# Altium schematic symbol library SYM-IC.SchLib: 136 symbols (part 7 of 7)
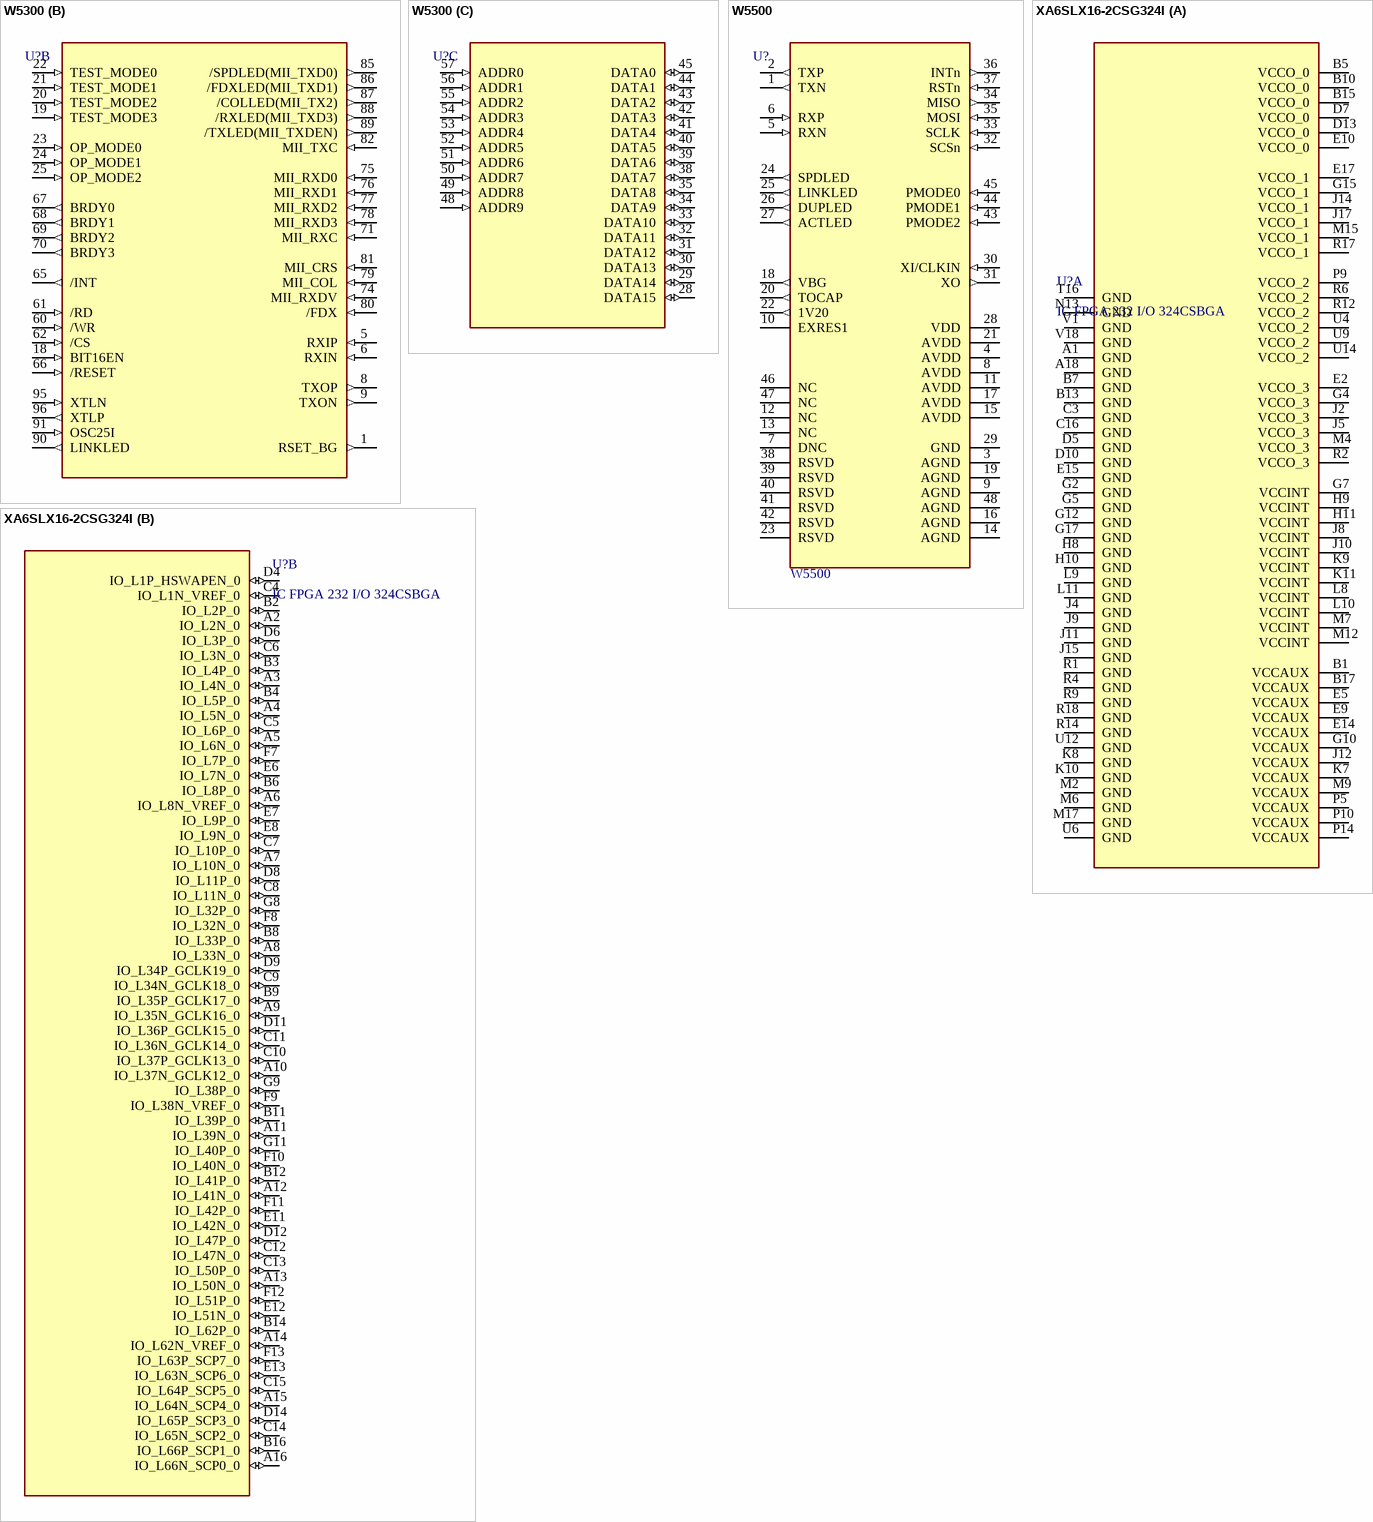
[diagram p23: symbols W5300 to XA6SLX16-2CSG324I]

## W5300
designator U?, comment IC CONTROLLER ETHERNET 100LQFP  (value not drawn)
Ethernet CTLR Single Chip 50Mbps 3.3V 100-Pin LQFP; Manufacturer: WIZnet; Manufacturer Part Number: W5300; Max Supply Voltage: 3.6V; Min Supply Voltage: 3V; Interface: Parallel; Operating Supply Current: 5mA; Data Rate: 100Mbps; Simplex/Duplex: Full Duplex; Supplier 1: Digi-Key; RoHS: Yes; Category: Ethernet Interface ICs; Stock 1: 11110; Pricing 1: 1=9/84000, 10=8/88800, 25=8/47480, 90=7/35856, 270=7/02781, 450=6/40769, 990=5/85000 (USD); Mount: Surface Mount; Case/Package: LQFP; Number of Pins: 100; Min Operating Temperature: -40°C; Max Operating Temperature: 80°C; Operating Supply Voltage: 3.3V; Package Quantity: 90; Packaging: Tray; Series: -; Supply Voltage-Nom: 3.6V; Length: 14mm; Width: 14mm; Height: 1.4mm; Lead Free: Lead Free; RoHS Compliant: Yes; ComponentLink1URL: https://datasheet.ciiva.com/6636/w5300-v1-2-6-6636080.pdf?src-supplier=Digi-Key; ComponentLink1Description: https://datasheet.ciiva.com/6636/w5300-v1-2-6-6636080.pdf?src-supplier=Digi-Key; ComponentLink2URL: https://datasheet.ciiva.com/19465/2132488-19465991.pdf?src-supplier=Jameco; ComponentLink2Description: https://datasheet.ciiva.com/19465/2132488-19465991.pdf?src-supplier=Jameco; ComponentLink3URL: https://datasheet.ciiva.com/4773/high-performance-internet-connectivity-solution-10809-4773124.pdf?src-supplier=Mouser; ComponentLink3Description: https://datasheet.ciiva.com/4773/high-performance-internet-connectivity-solution-10809-4773124.pdf?src-supplier=Mouser; ComponentLink4URL: https://datasheet.ciiva.com/16370/w5300-16370675.pdf?src-supplier=Future+Electronics; ComponentLink4Description: https://datasheet.ciiva.com/16370/w5300-16370675.pdf?src-supplier=Future+Electronics; Supplier Part Number 1: 1278-1009-ND
footprint TSQFP50P1600X1600X160-100N (TSQFP, 100-Leads, Body 14/00x14/00mm, Pitch 0/50mm, IPC Medium Density)
part A pins: 2 VCC3A3 (power), 3 NC, 4 GNDA (power), 7 VCC1V8A (power), 10 GNDA (power), 11 VCC1V8 (power), 12 GND (power), 13 1V8O (power), 14 VCC3V3 (power), 15 GND (power), 16 GNDA (power), 17 VCC1A8 (power), 26 VCC3V3 (power), 27 GND (power), 36 VCC1V8 (power), 37 GND (power), 46 VCC3V3 (power), 47 GND (power), 58 VCC1V8 (power), 59 GND (power), 63 VCC3V3 (power), 64 GND (power), 72 VCC1V8 (power), 73 GND (power), 83 VCC3V3 (power), 84 GND (power), 92 VCC1V8 (power), 93 GND (power), 94 VCC1V8 (power), 97 GND (power), 98 NC, 99 NC, 100 NC
part B pins: 1 RSET_BG (out), 5 RXIP (in), 6 RXIN (in), 8 TXOP (out), 9 TXON (out), 18 BIT16EN (in), 19 TEST_MODE3 (in), 20 TEST_MODE2 (in), 21 TEST_MODE1 (in), 22 TEST_MODE0 (in), 23 OP_MODE0 (in), 24 OP_MODE1 (in), 25 OP_MODE2 (in), 60 /WR (in), 61 /RD (in), 62 /CS (in), 65 /INT (out), 66 /RESET (in), 67 BRDY0 (out), 68 BRDY1 (out), 69 BRDY2 (out), 70 BRDY3 (out), 71 MII_RXC (in), 74 MII_RXDV (in), 75 MII_RXD0 (in), 76 MII_RXD1 (in), 77 MII_RXD2 (in), 78 MII_RXD3 (in), 79 MII_COL (in), 80 /FDX (in), 81 MII_CRS (in), 82 MII_TXC (in), 85 /SPDLED(MII_TXD0) (out), 86 /FDXLED(MII_TXD1) (out), 87 /COLLED(MII_TX2) (out), 88 /RXLED(MII_TXD3) (out), 89 /TXLED(MII_TXDEN) (out), 90 LINKLED (out), 91 OSC25I (in), 95 XTLN (in), 96 XTLP (out)
part C pins: 28 DATA15 (io), 29 DATA14 (io), 30 DATA13 (io), 31 DATA12 (io), 32 DATA11 (io), 33 DATA10 (io), 34 DATA9 (io), 35 DATA8 (io), 38 DATA7 (io), 39 DATA6 (io), 40 DATA5 (io), 41 DATA4 (io), 42 DATA3 (io), 43 DATA2 (io), 44 DATA1 (io), 45 DATA0 (io), 48 ADDR9 (in), 49 ADDR8 (in), 50 ADDR7 (in), 51 ADDR6 (in), 52 ADDR5 (in), 53 ADDR4 (in), 54 ADDR3 (in), 55 ADDR2 (in), 56 ADDR1 (in), 57 ADDR0 (in)

## W5500
designator U?, comment Manufacturer Part Number: W5500  (hidden comment: IC CTLR 3-1 ETH TCP/IP 48LQFP)
Manufacturer: WIZnet; Max Supply Voltage: 3.63V; Min Supply Voltage: 2.97V; Interface: SPI; Operating Supply Current: 132mA; Number of Transceivers: 1; Supplier 1: Digi-Key; RoHS: Yes; Category: Integrated Circuits (ICs); Stock 1: 151357; Pricing 1: 1=3/85000, 10=3/45600, 25=3/26760, 100=2/83180, 250=2/68656, 500=2/41066, 1000=2/05500 (USD); Case/Package: LQFP; Number of Pins: 48; Min Operating Temperature: -40°C; Max Operating Temperature: 85°C; Package Quantity: 250; Packaging: Tray; Max Supply Current: 132mA; Lead Free: Lead Free; RoHS Compliant: Yes; ComponentLink1URL: https://datasheet.ciiva.com/29644/w5500-ds-v100e-29644866.pdf?src-supplier=Digi-Key; ComponentLink1Description: https://datasheet.ciiva.com/29644/w5500-ds-v100e-29644866.pdf?src-supplier=Digi-Key; ComponentLink2URL: https://datasheet.ciiva.com/24199/w5500-24199988.pdf?src-supplier=Future+Electronics; ComponentLink2Description: https://datasheet.ciiva.com/24199/w5500-24199988.pdf?src-supplier=Future+Electronics; Supplier Part Number 1: 1278-W5500CT-ND
footprint TSQFP50P900X900X160-48N (TSQFP, 48-Leads, Body 7/00x7/00mm, Pitch 0/50mm, IPC Medium Density)
pins: 1 TXN (out), 2 TXP (out), 3 AGND (power), 4 AVDD (power), 5 RXN (in), 6 RXP (in), 7 DNC, 8 AVDD (power), 9 AGND (power), 10 EXRES1, 11 AVDD (power), 12 NC, 13 NC, 14 AGND (power), 15 AVDD (power), 16 AGND (power), 17 AVDD (power), 18 VBG (out), 19 AGND (power), 20 TOCAP (out), 21 AVDD (power), 22 1V20 (out), 23 RSVD, 24 SPDLED (out), 25 LINKLED (out), 26 DUPLED (out), 27 ACTLED (out), 28 VDD (power), 29 GND (power), 30 XI/CLKIN (in), 31 XO (out), 32 SCSn (in), 33 SCLK (in), 34 MISO (out), 35 MOSI (in), 36 INTn (out), 37 RSTn (in), 38 RSVD, 39 RSVD, 40 RSVD, 41 RSVD, 42 RSVD, 43 PMODE2 (in), 44 PMODE1 (in), 45 PMODE0 (in), 46 NC, 47 NC, 48 AGND (power)

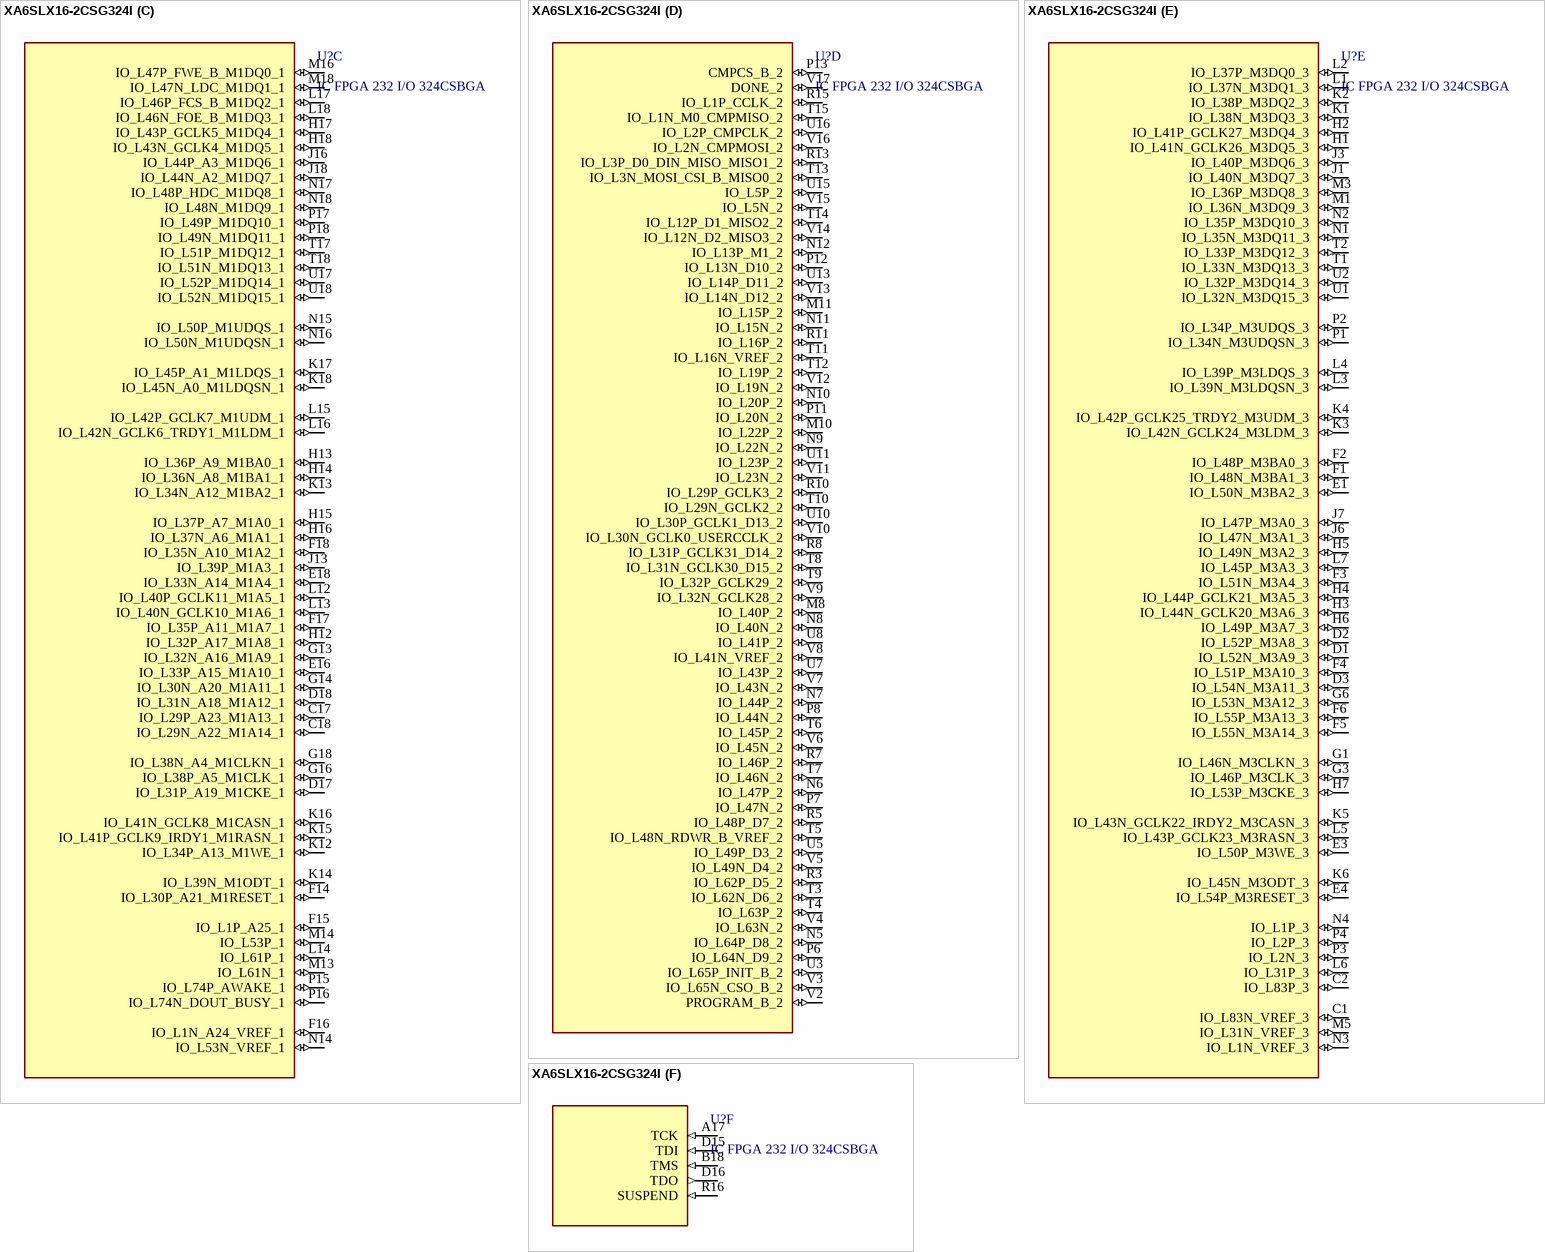
[diagram p12: symbol XA6SLX16-2CSG324I]

## XA6SLX16-2CSG324I
designator U?, comment IC FPGA 232 I/O 324CSBGA
FPGA XA Spartan-6 Family 14579 Cells 45nm (CMOS) Technology 1.2V 324-Pin CS-BGA; Manufacturer: Xilinx; Manufacturer Part Number: XA6SLX16-2CSG324I; Speed Grade: 2; Number of Logic Blocks (LABs): 1139; Number of Logic Elements/Cells: 14579; RAM Size: 589824b; Number of I/Os: 232; Number of Registers: 18224; Supplier 1: Digi-Key; RoHS: Yes; Category: FPGAs - Field Programmable Gate Arrays; Pricing 1: 126=53/55000 (USD); Mount: Surface Mount; Number of Pins: 324; Min Operating Temperature: -40°C; Max Operating Temperature: 100°C; Operating Supply Voltage: 1.2V; Package Quantity: 1; Series: Automotive, AEC-Q100, Spartan®-6 LX XA; RoHS Compliant: Yes; ComponentLink1URL: https://datasheet.ciiva.com/3254/ds170-3254933.pdf?src-supplier=Avnet; ComponentLink1Description: https://datasheet.ciiva.com/3254/ds170-3254933.pdf?src-supplier=Avnet; ComponentLink2URL: https://datasheet.ciiva.com/1473/ds170-1473563.pdf?src-supplier=Digi-Key; ComponentLink2Description: https://datasheet.ciiva.com/1473/ds170-1473563.pdf?src-supplier=Digi-Key; Supplier Part Number 1: XA6SLX16-2CSG324I-ND
footprint BGA324C80P18X18_1500X1500X150 (BGA, 324-Leads, Body 15/00x15/00mmx1/50mm, Pitch 0/80mm)
part A pins: A1 GND (power), A18 GND (power), B1 VCCAUX (power), B5 VCCO_0 (power), B7 GND (power), B10 VCCO_0 (power), B13 GND (power), B15 VCCO_0 (power), B17 VCCAUX (power), C3 GND (power), C16 GND (power), D5 GND (power), D7 VCCO_0 (power), D10 GND (power), D13 VCCO_0 (power), E2 VCCO_3 (power), E5 VCCAUX (power), E9 VCCAUX (power), E10 VCCO_0 (power), E14 VCCAUX (power), E15 GND (power), E17 VCCO_1 (power), G2 GND (power), G4 VCCO_3 (power), G5 GND (power), G7 VCCINT (power), G10 VCCAUX (power), G12 GND (power), G15 VCCO_1 (power), G17 GND (power), H8 GND (power), H9 VCCINT (power), H10 GND (power), H11 VCCINT (power), J2 VCCO_3 (power), J4 GND (power), J5 VCCO_3 (power), J8 VCCINT (power), J9 GND (power), J10 VCCINT (power), J11 GND (power), J12 VCCAUX (power), J14 VCCO_1 (power), J15 GND (power), J17 VCCO_1 (power), K7 VCCAUX (power), K8 GND (power), K9 VCCINT (power), K10 GND (power), K11 VCCINT (power), L8 VCCINT (power), L9 GND (power), L10 VCCINT (power), L11 GND (power), M2 GND (power), M4 VCCO_3 (power), M6 GND (power), M7 VCCINT (power), M9 VCCAUX (power), M12 VCCINT (power), M15 VCCO_1 (power), M17 GND (power), N13 GND (power), P5 VCCAUX (power), P9 VCCO_2 (power), P10 VCCAUX (power), P14 VCCAUX (power), R1 GND (power), R2 VCCO_3 (power), R4 GND (power), R6 VCCO_2 (power), R9 GND (power), R12 VCCO_2 (power), R14 GND (power), R17 VCCO_1 (power), R18 GND (power), T16 GND (power), U4 VCCO_2 (power), U6 GND (power), U9 VCCO_2 (power), U12 GND (power), U14 VCCO_2 (power), V1 GND (power), V18 GND (power)
part B pins: A2 IO_L2N_0 (io), A3 IO_L4N_0 (io), A4 IO_L5N_0 (io), A5 IO_L6N_0 (io), A6 IO_L8N_VREF_0 (io), A7 IO_L10N_0 (io), A8 IO_L33N_0 (io), A9 IO_L35N_GCLK16_0 (io), A10 IO_L37N_GCLK12_0 (io), A11 IO_L39N_0 (io), A12 IO_L41N_0 (io), A13 IO_L50N_0 (io), A14 IO_L62N_VREF_0 (io), A15 IO_L64N_SCP4_0 (io), A16 IO_L66N_SCP0_0 (io), B2 IO_L2P_0 (io), B3 IO_L4P_0 (io), B4 IO_L5P_0 (io), B6 IO_L8P_0 (io), B8 IO_L33P_0 (io), B9 IO_L35P_GCLK17_0 (io), B11 IO_L39P_0 (io), B12 IO_L41P_0 (io), B14 IO_L62P_0 (io), B16 IO_L66P_SCP1_0 (io), C4 IO_L1N_VREF_0 (io), C5 IO_L6P_0 (io), C6 IO_L3N_0 (io), C7 IO_L10P_0 (io), C8 IO_L11N_0 (io), C9 IO_L34N_GCLK18_0 (io), C10 IO_L37P_GCLK13_0 (io), C11 IO_L36N_GCLK14_0 (io), C12 IO_L47N_0 (io), C13 IO_L50P_0 (io), C14 IO_L65N_SCP2_0 (io), C15 IO_L64P_SCP5_0 (io), D4 IO_L1P_HSWAPEN_0 (io), D6 IO_L3P_0 (io), D8 IO_L11P_0 (io), D9 IO_L34P_GCLK19_0 (io), D11 IO_L36P_GCLK15_0 (io), D12 IO_L47P_0 (io), D14 IO_L65P_SCP3_0 (io), E6 IO_L7N_0 (io), E7 IO_L9P_0 (io), E8 IO_L9N_0 (io), E11 IO_L42N_0 (io), E12 IO_L51N_0 (io), E13 IO_L63N_SCP6_0 (io), F7 IO_L7P_0 (io), F8 IO_L32N_0 (io), F9 IO_L38N_VREF_0 (io), F10 IO_L40N_0 (io), F11 IO_L42P_0 (io), F12 IO_L51P_0 (io), F13 IO_L63P_SCP7_0 (io), G8 IO_L32P_0 (io), G9 IO_L38P_0 (io), G11 IO_L40P_0 (io)
part C pins: C17 IO_L29P_A23_M1A13_1 (io), C18 IO_L29N_A22_M1A14_1 (io), D17 IO_L31P_A19_M1CKE_1 (io), D18 IO_L31N_A18_M1A12_1 (io), E16 IO_L33P_A15_M1A10_1 (io), E18 IO_L33N_A14_M1A4_1 (io), F14 IO_L30P_A21_M1RESET_1 (io), F15 IO_L1P_A25_1 (io), F16 IO_L1N_A24_VREF_1 (io), F17 IO_L35P_A11_M1A7_1 (io), F18 IO_L35N_A10_M1A2_1 (io), G13 IO_L32N_A16_M1A9_1 (io), G14 IO_L30N_A20_M1A11_1 (io), G16 IO_L38P_A5_M1CLK_1 (io), G18 IO_L38N_A4_M1CLKN_1 (io), H12 IO_L32P_A17_M1A8_1 (io), H13 IO_L36P_A9_M1BA0_1 (io), H14 IO_L36N_A8_M1BA1_1 (io), H15 IO_L37P_A7_M1A0_1 (io), H16 IO_L37N_A6_M1A1_1 (io), H17 IO_L43P_GCLK5_M1DQ4_1 (io), H18 IO_L43N_GCLK4_M1DQ5_1 (io), J13 IO_L39P_M1A3_1 (io), J16 IO_L44P_A3_M1DQ6_1 (io), J18 IO_L44N_A2_M1DQ7_1 (io), K12 IO_L34P_A13_M1WE_1 (io), K13 IO_L34N_A12_M1BA2_1 (io), K14 IO_L39N_M1ODT_1 (io), K15 IO_L41P_GCLK9_IRDY1_M1RASN_1 (io), K16 IO_L41N_GCLK8_M1CASN_1 (io), K17 IO_L45P_A1_M1LDQS_1 (io), K18 IO_L45N_A0_M1LDQSN_1 (io), L12 IO_L40P_GCLK11_M1A5_1 (io), L13 IO_L40N_GCLK10_M1A6_1 (io), L14 IO_L61P_1 (io), L15 IO_L42P_GCLK7_M1UDM_1 (io), L16 IO_L42N_GCLK6_TRDY1_M1LDM_1 (io), L17 IO_L46P_FCS_B_M1DQ2_1 (io), L18 IO_L46N_FOE_B_M1DQ3_1 (io), M13 IO_L61N_1 (io), M14 IO_L53P_1 (io), M16 IO_L47P_FWE_B_M1DQ0_1 (io), M18 IO_L47N_LDC_M1DQ1_1 (io), N14 IO_L53N_VREF_1 (io), N15 IO_L50P_M1UDQS_1 (io), N16 IO_L50N_M1UDQSN_1 (io), N17 IO_L48P_HDC_M1DQ8_1 (io), N18 IO_L48N_M1DQ9_1 (io), P15 IO_L74P_AWAKE_1 (io), P16 IO_L74N_DOUT_BUSY_1 (io), P17 IO_L49P_M1DQ10_1 (io), P18 IO_L49N_M1DQ11_1 (io), T17 IO_L51P_M1DQ12_1 (io), T18 IO_L51N_M1DQ13_1 (io), U17 IO_L52P_M1DQ14_1 (io), U18 IO_L52N_M1DQ15_1 (io)
part D pins: M8 IO_L40P_2 (io), M10 IO_L22P_2 (io), M11 IO_L15P_2 (io), N5 IO_L64P_D8_2 (io), N6 IO_L47P_2 (io), N7 IO_L44P_2 (io), N8 IO_L40N_2 (io), N9 IO_L22N_2 (io), N10 IO_L20P_2 (io), N11 IO_L15N_2 (io), N12 IO_L13P_M1_2 (io), P6 IO_L64N_D9_2 (io), P7 IO_L47N_2 (io), P8 IO_L44N_2 (io), P11 IO_L20N_2 (io), P12 IO_L13N_D10_2 (io), P13 CMPCS_B_2 (io), R3 IO_L62P_D5_2 (io), R5 IO_L48P_D7_2 (io), R7 IO_L46P_2 (io), R8 IO_L31P_GCLK31_D14_2 (io), R10 IO_L29P_GCLK3_2 (io), R11 IO_L16P_2 (io), R13 IO_L3P_D0_DIN_MISO_MISO1_2 (io), R15 IO_L1P_CCLK_2 (io), T3 IO_L62N_D6_2 (io), T4 IO_L63P_2 (io), T5 IO_L48N_RDWR_B_VREF_2 (io), T6 IO_L45P_2 (io), T7 IO_L46N_2 (io), T8 IO_L31N_GCLK30_D15_2 (io), T9 IO_L32P_GCLK29_2 (io), T10 IO_L29N_GCLK2_2 (io), T11 IO_L16N_VREF_2 (io), T12 IO_L19P_2 (io), T13 IO_L3N_MOSI_CSI_B_MISO0_2 (io), T14 IO_L12P_D1_MISO2_2 (io), T15 IO_L1N_M0_CMPMISO_2 (io), U3 IO_L65P_INIT_B_2 (io), U5 IO_L49P_D3_2 (io), U7 IO_L43P_2 (io), U8 IO_L41P_2 (io), U10 IO_L30P_GCLK1_D13_2 (io), U11 IO_L23P_2 (io), U13 IO_L14P_D11_2 (io), U15 IO_L5P_2 (io), U16 IO_L2P_CMPCLK_2 (io), V2 PROGRAM_B_2 (io), V3 IO_L65N_CSO_B_2 (io), V4 IO_L63N_2 (io), V5 IO_L49N_D4_2 (io), V6 IO_L45N_2 (io), V7 IO_L43N_2 (io), V8 IO_L41N_VREF_2 (io), V9 IO_L32N_GCLK28_2 (io), V10 IO_L30N_GCLK0_USERCCLK_2 (io), V11 IO_L23N_2 (io), V12 IO_L19N_2 (io), V13 IO_L14N_D12_2 (io), V14 IO_L12N_D2_MISO3_2 (io), V15 IO_L5N_2 (io), V16 IO_L2N_CMPMOSI_2 (io), V17 DONE_2 (io)
part E pins: C1 IO_L83N_VREF_3 (io), C2 IO_L83P_3 (io), D1 IO_L52N_M3A9_3 (io), D2 IO_L52P_M3A8_3 (io), D3 IO_L54N_M3A11_3 (io), E1 IO_L50N_M3BA2_3 (io), E3 IO_L50P_M3WE_3 (io), E4 IO_L54P_M3RESET_3 (io), F1 IO_L48N_M3BA1_3 (io), F2 IO_L48P_M3BA0_3 (io), F3 IO_L51N_M3A4_3 (io), F4 IO_L51P_M3A10_3 (io), F5 IO_L55N_M3A14_3 (io), F6 IO_L55P_M3A13_3 (io), G1 IO_L46N_M3CLKN_3 (io), G3 IO_L46P_M3CLK_3 (io), G6 IO_L53N_M3A12_3 (io), H1 IO_L41N_GCLK26_M3DQ5_3 (io), H2 IO_L41P_GCLK27_M3DQ4_3 (io), H3 IO_L44N_GCLK20_M3A6_3 (io), H4 IO_L44P_GCLK21_M3A5_3 (io), H5 IO_L49N_M3A2_3 (io), H6 IO_L49P_M3A7_3 (io), H7 IO_L53P_M3CKE_3 (io), J1 IO_L40N_M3DQ7_3 (io), J3 IO_L40P_M3DQ6_3 (io), J6 IO_L47N_M3A1_3 (io), J7 IO_L47P_M3A0_3 (io), K1 IO_L38N_M3DQ3_3 (io), K2 IO_L38P_M3DQ2_3 (io), K3 IO_L42N_GCLK24_M3LDM_3 (io), K4 IO_L42P_GCLK25_TRDY2_M3UDM_3 (io), K5 IO_L43N_GCLK22_IRDY2_M3CASN_3 (io), K6 IO_L45N_M3ODT_3 (io), L1 IO_L37N_M3DQ1_3 (io), L2 IO_L37P_M3DQ0_3 (io), L3 IO_L39N_M3LDQSN_3 (io), L4 IO_L39P_M3LDQS_3 (io), L5 IO_L43P_GCLK23_M3RASN_3 (io), L6 IO_L31P_3 (io), L7 IO_L45P_M3A3_3 (io), M1 IO_L36N_M3DQ9_3 (io), M3 IO_L36P_M3DQ8_3 (io), M5 IO_L31N_VREF_3 (io), N1 IO_L35N_M3DQ11_3 (io), N2 IO_L35P_M3DQ10_3 (io), N3 IO_L1N_VREF_3 (io), N4 IO_L1P_3 (io), P1 IO_L34N_M3UDQSN_3 (io), P2 IO_L34P_M3UDQS_3 (io), P3 IO_L2N_3 (io), P4 IO_L2P_3 (io), T1 IO_L33N_M3DQ13_3 (io), T2 IO_L33P_M3DQ12_3 (io), U1 IO_L32N_M3DQ15_3 (io), U2 IO_L32P_M3DQ14_3 (io)
part F pins: A17 TCK (in), B18 TMS (in), D15 TDI (in), D16 TDO (out), R16 SUSPEND (in)

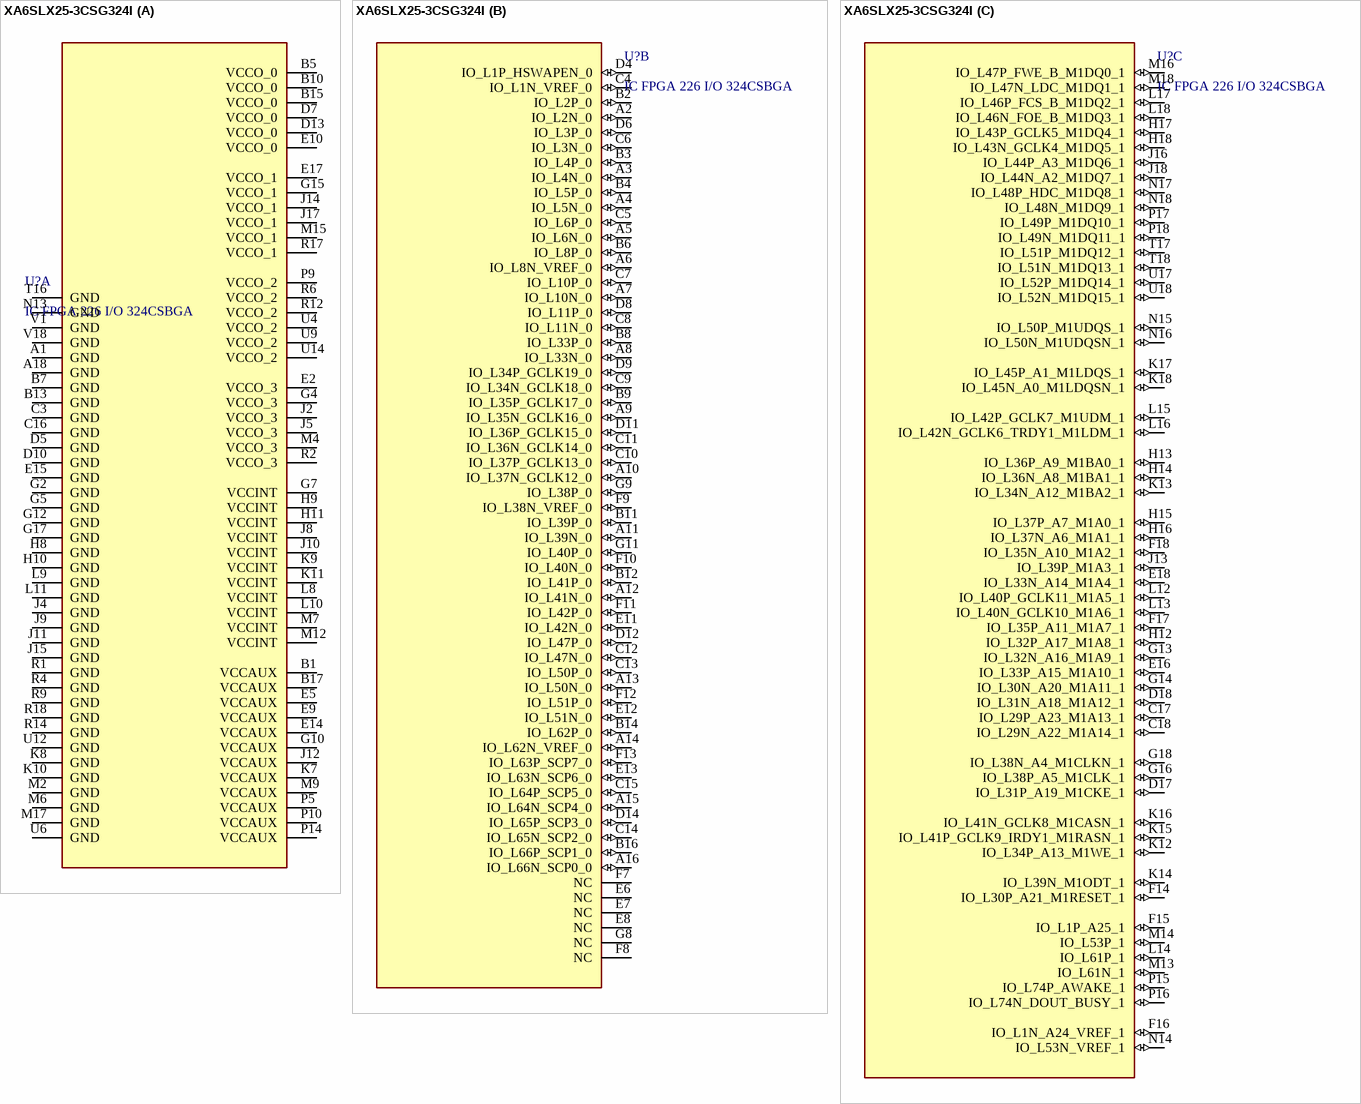
[diagram p13: symbol XA6SLX25-3CSG324I]

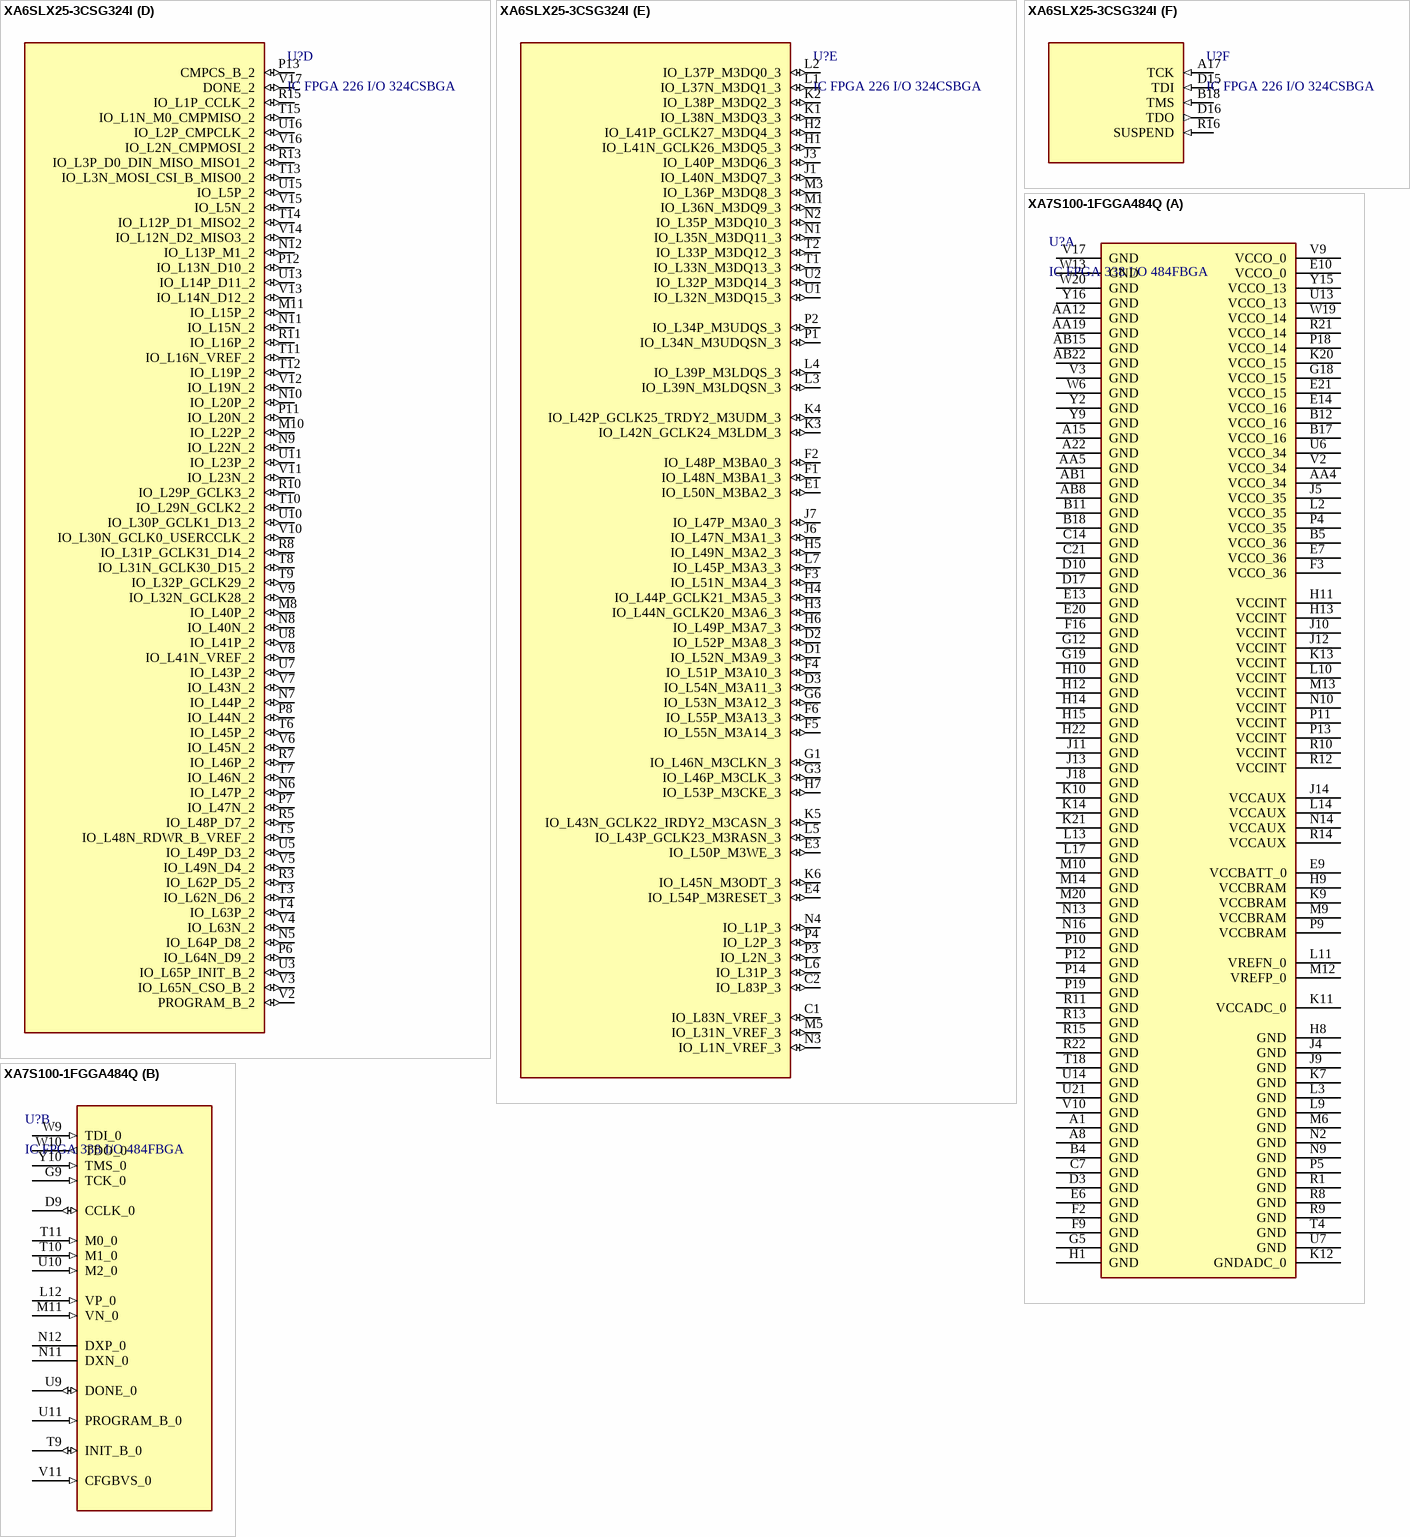
[diagram p14: symbols XA6SLX25-3CSG324I to XA7S100-1FGGA484Q]

## XA6SLX25-3CSG324I
designator U?, comment IC FPGA 226 I/O 324CSBGA
FPGA XA Spartan-6 Family 24051 Cells 45nm (CMOS) Technology 1.2V 324-Pin CS-BGA; Manufacturer: Xilinx; Manufacturer Part Number: XA6SLX25-3CSG324I; Speed Grade: 3; Number of Logic Blocks (LABs): 1879; Number of Logic Elements/Cells: 24051; RAM Size: 958464b; Number of I/Os: 226; Number of Registers: 30064; Supplier 1: Digi-Key; RoHS: Yes; Category: FPGAs - Field Programmable Gate Arrays; Mount: Surface Mount; Number of Pins: 324; Min Operating Temperature: -40°C; Max Operating Temperature: 100°C; Operating Supply Voltage: 1.2V; Package Quantity: 1; Series: Automotive, AEC-Q100, Spartan®-6 LX XA; RoHS Compliant: Yes; ComponentLink1URL: https://datasheet.ciiva.com/1474/ds170-1474197.pdf?src-supplier=Digi-Key; ComponentLink1Description: https://datasheet.ciiva.com/1474/ds170-1474197.pdf?src-supplier=Digi-Key; Supplier Part Number 1: XA6SLX25-3CSG324I-ND
footprint BGA324C80P18X18_1500X1500X150 (BGA, 324-Leads, Body 15/00x15/00mmx1/50mm, Pitch 0/80mm)
part A pins: A1 GND (power), A18 GND (power), B1 VCCAUX (power), B5 VCCO_0 (power), B7 GND (power), B10 VCCO_0 (power), B13 GND (power), B15 VCCO_0 (power), B17 VCCAUX (power), C3 GND (power), C16 GND (power), D5 GND (power), D7 VCCO_0 (power), D10 GND (power), D13 VCCO_0 (power), E2 VCCO_3 (power), E5 VCCAUX (power), E9 VCCAUX (power), E10 VCCO_0 (power), E14 VCCAUX (power), E15 GND (power), E17 VCCO_1 (power), G2 GND (power), G4 VCCO_3 (power), G5 GND (power), G7 VCCINT (power), G10 VCCAUX (power), G12 GND (power), G15 VCCO_1 (power), G17 GND (power), H8 GND (power), H9 VCCINT (power), H10 GND (power), H11 VCCINT (power), J2 VCCO_3 (power), J4 GND (power), J5 VCCO_3 (power), J8 VCCINT (power), J9 GND (power), J10 VCCINT (power), J11 GND (power), J12 VCCAUX (power), J14 VCCO_1 (power), J15 GND (power), J17 VCCO_1 (power), K7 VCCAUX (power), K8 GND (power), K9 VCCINT (power), K10 GND (power), K11 VCCINT (power), L8 VCCINT (power), L9 GND (power), L10 VCCINT (power), L11 GND (power), M2 GND (power), M4 VCCO_3 (power), M6 GND (power), M7 VCCINT (power), M9 VCCAUX (power), M12 VCCINT (power), M15 VCCO_1 (power), M17 GND (power), N13 GND (power), P5 VCCAUX (power), P9 VCCO_2 (power), P10 VCCAUX (power), P14 VCCAUX (power), R1 GND (power), R2 VCCO_3 (power), R4 GND (power), R6 VCCO_2 (power), R9 GND (power), R12 VCCO_2 (power), R14 GND (power), R17 VCCO_1 (power), R18 GND (power), T16 GND (power), U4 VCCO_2 (power), U6 GND (power), U9 VCCO_2 (power), U12 GND (power), U14 VCCO_2 (power), V1 GND (power), V18 GND (power)
part B pins: A2 IO_L2N_0 (io), A3 IO_L4N_0 (io), A4 IO_L5N_0 (io), A5 IO_L6N_0 (io), A6 IO_L8N_VREF_0 (io), A7 IO_L10N_0 (io), A8 IO_L33N_0 (io), A9 IO_L35N_GCLK16_0 (io), A10 IO_L37N_GCLK12_0 (io), A11 IO_L39N_0 (io), A12 IO_L41N_0 (io), A13 IO_L50N_0 (io), A14 IO_L62N_VREF_0 (io), A15 IO_L64N_SCP4_0 (io), A16 IO_L66N_SCP0_0 (io), B2 IO_L2P_0 (io), B3 IO_L4P_0 (io), B4 IO_L5P_0 (io), B6 IO_L8P_0 (io), B8 IO_L33P_0 (io), B9 IO_L35P_GCLK17_0 (io), B11 IO_L39P_0 (io), B12 IO_L41P_0 (io), B14 IO_L62P_0 (io), B16 IO_L66P_SCP1_0 (io), C4 IO_L1N_VREF_0 (io), C5 IO_L6P_0 (io), C6 IO_L3N_0 (io), C7 IO_L10P_0 (io), C8 IO_L11N_0 (io), C9 IO_L34N_GCLK18_0 (io), C10 IO_L37P_GCLK13_0 (io), C11 IO_L36N_GCLK14_0 (io), C12 IO_L47N_0 (io), C13 IO_L50P_0 (io), C14 IO_L65N_SCP2_0 (io), C15 IO_L64P_SCP5_0 (io), D4 IO_L1P_HSWAPEN_0 (io), D6 IO_L3P_0 (io), D8 IO_L11P_0 (io), D9 IO_L34P_GCLK19_0 (io), D11 IO_L36P_GCLK15_0 (io), D12 IO_L47P_0 (io), D14 IO_L65P_SCP3_0 (io), E6 NC, E7 NC, E8 NC, E11 IO_L42N_0 (io), E12 IO_L51N_0 (io), E13 IO_L63N_SCP6_0 (io), F7 NC, F8 NC, F9 IO_L38N_VREF_0 (io), F10 IO_L40N_0 (io), F11 IO_L42P_0 (io), F12 IO_L51P_0 (io), F13 IO_L63P_SCP7_0 (io), G8 NC, G9 IO_L38P_0 (io), G11 IO_L40P_0 (io)
part C pins: C17 IO_L29P_A23_M1A13_1 (io), C18 IO_L29N_A22_M1A14_1 (io), D17 IO_L31P_A19_M1CKE_1 (io), D18 IO_L31N_A18_M1A12_1 (io), E16 IO_L33P_A15_M1A10_1 (io), E18 IO_L33N_A14_M1A4_1 (io), F14 IO_L30P_A21_M1RESET_1 (io), F15 IO_L1P_A25_1 (io), F16 IO_L1N_A24_VREF_1 (io), F17 IO_L35P_A11_M1A7_1 (io), F18 IO_L35N_A10_M1A2_1 (io), G13 IO_L32N_A16_M1A9_1 (io), G14 IO_L30N_A20_M1A11_1 (io), G16 IO_L38P_A5_M1CLK_1 (io), G18 IO_L38N_A4_M1CLKN_1 (io), H12 IO_L32P_A17_M1A8_1 (io), H13 IO_L36P_A9_M1BA0_1 (io), H14 IO_L36N_A8_M1BA1_1 (io), H15 IO_L37P_A7_M1A0_1 (io), H16 IO_L37N_A6_M1A1_1 (io), H17 IO_L43P_GCLK5_M1DQ4_1 (io), H18 IO_L43N_GCLK4_M1DQ5_1 (io), J13 IO_L39P_M1A3_1 (io), J16 IO_L44P_A3_M1DQ6_1 (io), J18 IO_L44N_A2_M1DQ7_1 (io), K12 IO_L34P_A13_M1WE_1 (io), K13 IO_L34N_A12_M1BA2_1 (io), K14 IO_L39N_M1ODT_1 (io), K15 IO_L41P_GCLK9_IRDY1_M1RASN_1 (io), K16 IO_L41N_GCLK8_M1CASN_1 (io), K17 IO_L45P_A1_M1LDQS_1 (io), K18 IO_L45N_A0_M1LDQSN_1 (io), L12 IO_L40P_GCLK11_M1A5_1 (io), L13 IO_L40N_GCLK10_M1A6_1 (io), L14 IO_L61P_1 (io), L15 IO_L42P_GCLK7_M1UDM_1 (io), L16 IO_L42N_GCLK6_TRDY1_M1LDM_1 (io), L17 IO_L46P_FCS_B_M1DQ2_1 (io), L18 IO_L46N_FOE_B_M1DQ3_1 (io), M13 IO_L61N_1 (io), M14 IO_L53P_1 (io), M16 IO_L47P_FWE_B_M1DQ0_1 (io), M18 IO_L47N_LDC_M1DQ1_1 (io), N14 IO_L53N_VREF_1 (io), N15 IO_L50P_M1UDQS_1 (io), N16 IO_L50N_M1UDQSN_1 (io), N17 IO_L48P_HDC_M1DQ8_1 (io), N18 IO_L48N_M1DQ9_1 (io), P15 IO_L74P_AWAKE_1 (io), P16 IO_L74N_DOUT_BUSY_1 (io), P17 IO_L49P_M1DQ10_1 (io), P18 IO_L49N_M1DQ11_1 (io), T17 IO_L51P_M1DQ12_1 (io), T18 IO_L51N_M1DQ13_1 (io), U17 IO_L52P_M1DQ14_1 (io), U18 IO_L52N_M1DQ15_1 (io)
part D pins: M8 IO_L40P_2 (io), M10 IO_L22P_2 (io), M11 IO_L15P_2 (io), N5 IO_L64P_D8_2 (io), N6 IO_L47P_2 (io), N7 IO_L44P_2 (io), N8 IO_L40N_2 (io), N9 IO_L22N_2 (io), N10 IO_L20P_2 (io), N11 IO_L15N_2 (io), N12 IO_L13P_M1_2 (io), P6 IO_L64N_D9_2 (io), P7 IO_L47N_2 (io), P8 IO_L44N_2 (io), P11 IO_L20N_2 (io), P12 IO_L13N_D10_2 (io), P13 CMPCS_B_2 (io), R3 IO_L62P_D5_2 (io), R5 IO_L48P_D7_2 (io), R7 IO_L46P_2 (io), R8 IO_L31P_GCLK31_D14_2 (io), R10 IO_L29P_GCLK3_2 (io), R11 IO_L16P_2 (io), R13 IO_L3P_D0_DIN_MISO_MISO1_2 (io), R15 IO_L1P_CCLK_2 (io), T3 IO_L62N_D6_2 (io), T4 IO_L63P_2 (io), T5 IO_L48N_RDWR_B_VREF_2 (io), T6 IO_L45P_2 (io), T7 IO_L46N_2 (io), T8 IO_L31N_GCLK30_D15_2 (io), T9 IO_L32P_GCLK29_2 (io), T10 IO_L29N_GCLK2_2 (io), T11 IO_L16N_VREF_2 (io), T12 IO_L19P_2 (io), T13 IO_L3N_MOSI_CSI_B_MISO0_2 (io), T14 IO_L12P_D1_MISO2_2 (io), T15 IO_L1N_M0_CMPMISO_2 (io), U3 IO_L65P_INIT_B_2 (io), U5 IO_L49P_D3_2 (io), U7 IO_L43P_2 (io), U8 IO_L41P_2 (io), U10 IO_L30P_GCLK1_D13_2 (io), U11 IO_L23P_2 (io), U13 IO_L14P_D11_2 (io), U15 IO_L5P_2 (io), U16 IO_L2P_CMPCLK_2 (io), V2 PROGRAM_B_2 (io), V3 IO_L65N_CSO_B_2 (io), V4 IO_L63N_2 (io), V5 IO_L49N_D4_2 (io), V6 IO_L45N_2 (io), V7 IO_L43N_2 (io), V8 IO_L41N_VREF_2 (io), V9 IO_L32N_GCLK28_2 (io), V10 IO_L30N_GCLK0_USERCCLK_2 (io), V11 IO_L23N_2 (io), V12 IO_L19N_2 (io), V13 IO_L14N_D12_2 (io), V14 IO_L12N_D2_MISO3_2 (io), V15 IO_L5N_2 (io), V16 IO_L2N_CMPMOSI_2 (io), V17 DONE_2 (io)
part E pins: C1 IO_L83N_VREF_3 (io), C2 IO_L83P_3 (io), D1 IO_L52N_M3A9_3 (io), D2 IO_L52P_M3A8_3 (io), D3 IO_L54N_M3A11_3 (io), E1 IO_L50N_M3BA2_3 (io), E3 IO_L50P_M3WE_3 (io), E4 IO_L54P_M3RESET_3 (io), F1 IO_L48N_M3BA1_3 (io), F2 IO_L48P_M3BA0_3 (io), F3 IO_L51N_M3A4_3 (io), F4 IO_L51P_M3A10_3 (io), F5 IO_L55N_M3A14_3 (io), F6 IO_L55P_M3A13_3 (io), G1 IO_L46N_M3CLKN_3 (io), G3 IO_L46P_M3CLK_3 (io), G6 IO_L53N_M3A12_3 (io), H1 IO_L41N_GCLK26_M3DQ5_3 (io), H2 IO_L41P_GCLK27_M3DQ4_3 (io), H3 IO_L44N_GCLK20_M3A6_3 (io), H4 IO_L44P_GCLK21_M3A5_3 (io), H5 IO_L49N_M3A2_3 (io), H6 IO_L49P_M3A7_3 (io), H7 IO_L53P_M3CKE_3 (io), J1 IO_L40N_M3DQ7_3 (io), J3 IO_L40P_M3DQ6_3 (io), J6 IO_L47N_M3A1_3 (io), J7 IO_L47P_M3A0_3 (io), K1 IO_L38N_M3DQ3_3 (io), K2 IO_L38P_M3DQ2_3 (io), K3 IO_L42N_GCLK24_M3LDM_3 (io), K4 IO_L42P_GCLK25_TRDY2_M3UDM_3 (io), K5 IO_L43N_GCLK22_IRDY2_M3CASN_3 (io), K6 IO_L45N_M3ODT_3 (io), L1 IO_L37N_M3DQ1_3 (io), L2 IO_L37P_M3DQ0_3 (io), L3 IO_L39N_M3LDQSN_3 (io), L4 IO_L39P_M3LDQS_3 (io), L5 IO_L43P_GCLK23_M3RASN_3 (io), L6 IO_L31P_3 (io), L7 IO_L45P_M3A3_3 (io), M1 IO_L36N_M3DQ9_3 (io), M3 IO_L36P_M3DQ8_3 (io), M5 IO_L31N_VREF_3 (io), N1 IO_L35N_M3DQ11_3 (io), N2 IO_L35P_M3DQ10_3 (io), N3 IO_L1N_VREF_3 (io), N4 IO_L1P_3 (io), P1 IO_L34N_M3UDQSN_3 (io), P2 IO_L34P_M3UDQS_3 (io), P3 IO_L2N_3 (io), P4 IO_L2P_3 (io), T1 IO_L33N_M3DQ13_3 (io), T2 IO_L33P_M3DQ12_3 (io), U1 IO_L32N_M3DQ15_3 (io), U2 IO_L32P_M3DQ14_3 (io)
part F pins: A17 TCK (in), B18 TMS (in), D15 TDI (in), D16 TDO (out), R16 SUSPEND (in)

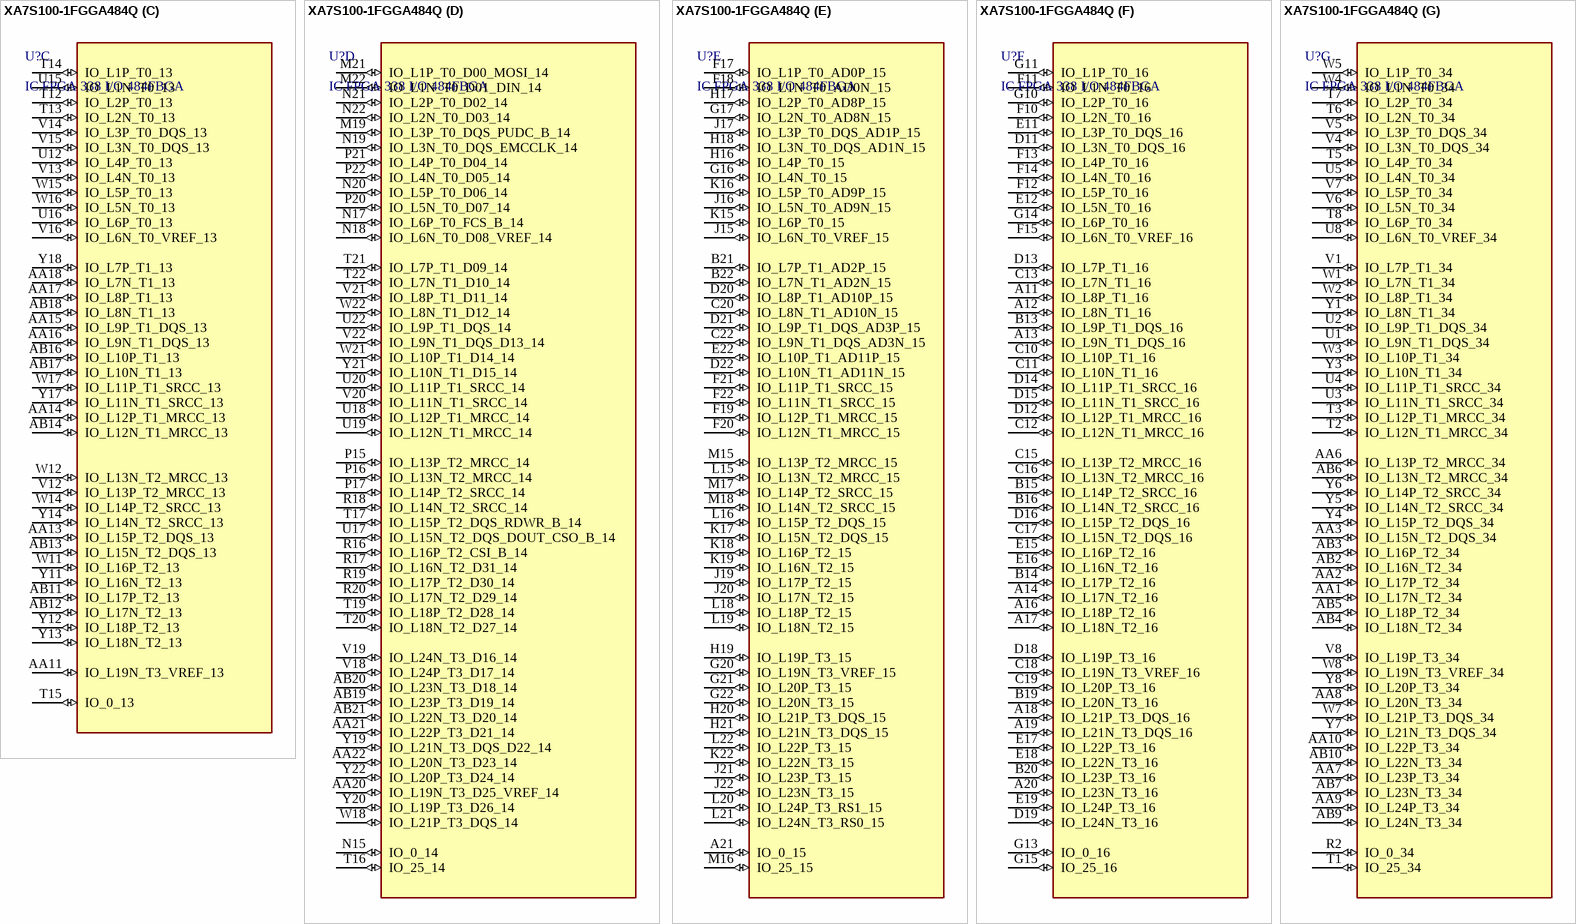
[diagram p15: symbol XA7S100-1FGGA484Q]

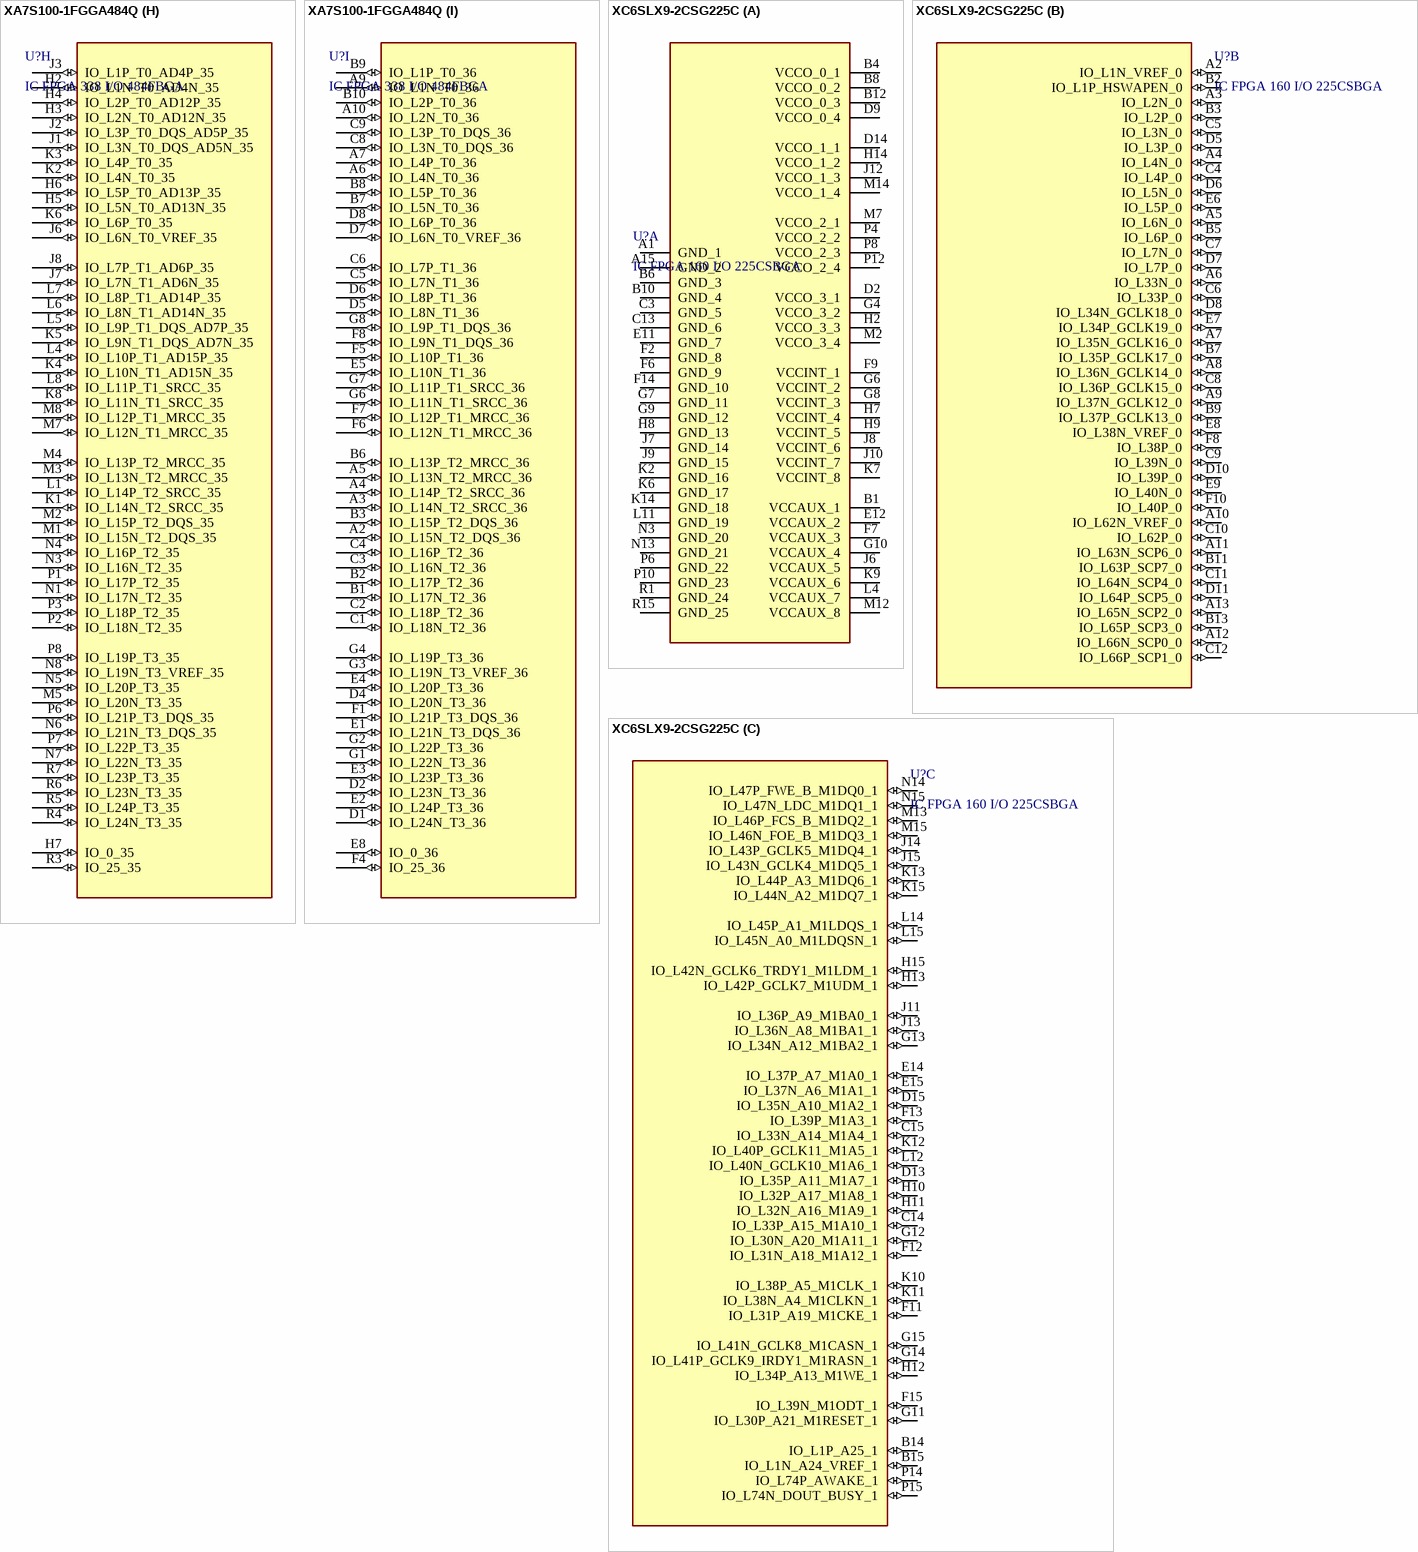
[diagram p16: symbols XA7S100-1FGGA484Q to XC6SLX9-2CSG225C]

## XA7S100-1FGGA484Q
designator U?, comment IC FPGA 338 I/O 484FBGA
Manufacturer: Xilinx; Manufacturer Part Number: XA7S100-1FGGA484Q; Supplier 1: Digi-Key; RoHS: No; Supplier Part Number 1: 122-XA7S100-1FGGA484Q-ND
footprint BGA484C100P22X22_2300X2300X244 (BGA, 484-Leads, Body 23/00x23/00mmx2/44mm, Pitch 1/00mm)
part A pins: A1 GND, A8 GND, A15 GND, A22 GND, AA4 VCCO_34 (power), AA5 GND, AA12 GND, AA19 GND, AB1 GND, AB8 GND, AB15 GND, AB22 GND, B4 GND, B5 VCCO_36 (power), B11 GND, B12 VCCO_16 (power), B17 VCCO_16 (power), B18 GND, C7 GND, C14 GND, C21 GND, D3 GND, D10 GND, D17 GND, E6 GND, E7 VCCO_36 (power), E9 VCCBATT_0 (power), E10 VCCO_0 (power), E13 GND, E14 VCCO_16 (power), E20 GND, E21 VCCO_15 (power), F2 GND, F3 VCCO_36 (power), F9 GND, F16 GND, G5 GND, G12 GND, G18 VCCO_15 (power), G19 GND, H1 GND, H8 GND, H9 VCCBRAM (power), H10 GND, H11 VCCINT (power), H12 GND, H13 VCCINT (power), H14 GND, H15 GND, H22 GND, J4 GND, J5 VCCO_35 (power), J9 GND, J10 VCCINT (power), J11 GND, J12 VCCINT (power), J13 GND, J14 VCCAUX (power), J18 GND, K7 GND, K9 VCCBRAM (power), K10 GND, K11 VCCADC_0 (power), K12 GNDADC_0, K13 VCCINT (power), K14 GND, K20 VCCO_15 (power), K21 GND, L2 VCCO_35 (power), L3 GND, L9 GND, L10 VCCINT (power), L11 VREFN_0 (power), L13 GND, L14 VCCAUX (power), L17 GND, M6 GND, M9 VCCBRAM (power), M10 GND, M12 VREFP_0 (power), M13 VCCINT (power), M14 GND, M20 GND, N2 GND, N9 GND, N10 VCCINT (power), N13 GND, N14 VCCAUX (power), N16 GND, P4 VCCO_35 (power), P5 GND, P9 VCCBRAM (power), P10 GND, P11 VCCINT (power), P12 GND, P13 VCCINT (power), P14 GND, P18 VCCO_14 (power), P19 GND, R1 GND, R8 GND, R9 GND, R10 VCCINT (power), R11 GND, R12 VCCINT (power), R13 GND, R14 VCCAUX (power), R15 GND, R21 VCCO_14 (power), R22 GND, T4 GND, T18 GND, U6 VCCO_34 (power), U7 GND, U13 VCCO_13 (power), U14 GND, U21 GND, V2 VCCO_34 (power), V3 GND, V9 VCCO_0 (power), V10 GND, V17 GND, W6 GND, W13 GND, W19 VCCO_14 (power), W20 GND, Y2 GND, Y9 GND, Y15 VCCO_13 (power), Y16 GND
part B pins: D9 CCLK_0 (io), G9 TCK_0 (in), L12 VP_0 (in), M11 VN_0 (in), N11 DXN_0, N12 DXP_0, T9 INIT_B_0 (io), T10 M1_0 (in), T11 M0_0 (in), U9 DONE_0 (io), U10 M2_0 (in), U11 PROGRAM_B_0 (in), V11 CFGBVS_0 (in), W9 TDI_0 (in), W10 TDO_0 (out), Y10 TMS_0 (in)
part C pins: AA11 IO_L19N_T3_VREF_13 (io), AA13 IO_L15P_T2_DQS_13 (io), AA14 IO_L12P_T1_MRCC_13 (io), AA15 IO_L9P_T1_DQS_13 (io), AA16 IO_L9N_T1_DQS_13 (io), AA17 IO_L8P_T1_13 (io), AA18 IO_L7N_T1_13 (io), AB11 IO_L17P_T2_13 (io), AB12 IO_L17N_T2_13 (io), AB13 IO_L15N_T2_DQS_13 (io), AB14 IO_L12N_T1_MRCC_13 (io), AB16 IO_L10P_T1_13 (io), AB17 IO_L10N_T1_13 (io), AB18 IO_L8N_T1_13 (io), T12 IO_L2P_T0_13 (io), T13 IO_L2N_T0_13 (io), T14 IO_L1P_T0_13 (io), T15 IO_0_13 (io), U12 IO_L4P_T0_13 (io), U15 IO_L1N_T0_13 (io), U16 IO_L6P_T0_13 (io), V12 IO_L13P_T2_MRCC_13 (io), V13 IO_L4N_T0_13 (io), V14 IO_L3P_T0_DQS_13 (io), V15 IO_L3N_T0_DQS_13 (io), V16 IO_L6N_T0_VREF_13 (io), W11 IO_L16P_T2_13 (io), W12 IO_L13N_T2_MRCC_13 (io), W14 IO_L14P_T2_SRCC_13 (io), W15 IO_L5P_T0_13 (io), W16 IO_L5N_T0_13 (io), W17 IO_L11P_T1_SRCC_13 (io), Y11 IO_L16N_T2_13 (io), Y12 IO_L18P_T2_13 (io), Y13 IO_L18N_T2_13 (io), Y14 IO_L14N_T2_SRCC_13 (io), Y17 IO_L11N_T1_SRCC_13 (io), Y18 IO_L7P_T1_13 (io)
part D pins: AA20 IO_L19N_T3_D25_VREF_14 (io), AA21 IO_L22P_T3_D21_14 (io), AA22 IO_L20N_T3_D23_14 (io), AB19 IO_L23P_T3_D19_14 (io), AB20 IO_L23N_T3_D18_14 (io), AB21 IO_L22N_T3_D20_14 (io), M19 IO_L3P_T0_DQS_PUDC_B_14 (io), M21 IO_L1P_T0_D00_MOSI_14 (io), M22 IO_L1N_T0_D01_DIN_14 (io), N15 IO_0_14 (io), N17 IO_L6P_T0_FCS_B_14 (io), N18 IO_L6N_T0_D08_VREF_14 (io), N19 IO_L3N_T0_DQS_EMCCLK_14 (io), N20 IO_L5P_T0_D06_14 (io), N21 IO_L2P_T0_D02_14 (io), N22 IO_L2N_T0_D03_14 (io), P15 IO_L13P_T2_MRCC_14 (io), P16 IO_L13N_T2_MRCC_14 (io), P17 IO_L14P_T2_SRCC_14 (io), P20 IO_L5N_T0_D07_14 (io), P21 IO_L4P_T0_D04_14 (io), P22 IO_L4N_T0_D05_14 (io), R16 IO_L16P_T2_CSI_B_14 (io), R17 IO_L16N_T2_D31_14 (io), R18 IO_L14N_T2_SRCC_14 (io), R19 IO_L17P_T2_D30_14 (io), R20 IO_L17N_T2_D29_14 (io), T16 IO_25_14 (io), T17 IO_L15P_T2_DQS_RDWR_B_14 (io), T19 IO_L18P_T2_D28_14 (io), T20 IO_L18N_T2_D27_14 (io), T21 IO_L7P_T1_D09_14 (io), T22 IO_L7N_T1_D10_14 (io), U17 IO_L15N_T2_DQS_DOUT_CSO_B_14 (io), U18 IO_L12P_T1_MRCC_14 (io), U19 IO_L12N_T1_MRCC_14 (io), U20 IO_L11P_T1_SRCC_14 (io), U22 IO_L9P_T1_DQS_14 (io), V18 IO_L24P_T3_D17_14 (io), V19 IO_L24N_T3_D16_14 (io), V20 IO_L11N_T1_SRCC_14 (io), V21 IO_L8P_T1_D11_14 (io), V22 IO_L9N_T1_DQS_D13_14 (io), W18 IO_L21P_T3_DQS_14 (io), W21 IO_L10P_T1_D14_14 (io), W22 IO_L8N_T1_D12_14 (io), Y19 IO_L21N_T3_DQS_D22_14 (io), Y20 IO_L19P_T3_D26_14 (io), Y21 IO_L10N_T1_D15_14 (io), Y22 IO_L20P_T3_D24_14 (io)
part E pins: A21 IO_0_15 (io), B21 IO_L7P_T1_AD2P_15 (io), B22 IO_L7N_T1_AD2N_15 (io), C20 IO_L8N_T1_AD10N_15 (io), C22 IO_L9N_T1_DQS_AD3N_15 (io), D20 IO_L8P_T1_AD10P_15 (io), D21 IO_L9P_T1_DQS_AD3P_15 (io), D22 IO_L10N_T1_AD11N_15 (io), E22 IO_L10P_T1_AD11P_15 (io), F17 IO_L1P_T0_AD0P_15 (io), F18 IO_L1N_T0_AD0N_15 (io), F19 IO_L12P_T1_MRCC_15 (io), F20 IO_L12N_T1_MRCC_15 (io), F21 IO_L11P_T1_SRCC_15 (io), F22 IO_L11N_T1_SRCC_15 (io), G16 IO_L4N_T0_15 (io), G17 IO_L2N_T0_AD8N_15 (io), G20 IO_L19N_T3_VREF_15 (io), G21 IO_L20P_T3_15 (io), G22 IO_L20N_T3_15 (io), H16 IO_L4P_T0_15 (io), H17 IO_L2P_T0_AD8P_15 (io), H18 IO_L3N_T0_DQS_AD1N_15 (io), H19 IO_L19P_T3_15 (io), H20 IO_L21P_T3_DQS_15 (io), H21 IO_L21N_T3_DQS_15 (io), J15 IO_L6N_T0_VREF_15 (io), J16 IO_L5N_T0_AD9N_15 (io), J17 IO_L3P_T0_DQS_AD1P_15 (io), J19 IO_L17P_T2_15 (io), J20 IO_L17N_T2_15 (io), J21 IO_L23P_T3_15 (io), J22 IO_L23N_T3_15 (io), K15 IO_L6P_T0_15 (io), K16 IO_L5P_T0_AD9P_15 (io), K17 IO_L15N_T2_DQS_15 (io), K18 IO_L16P_T2_15 (io), K19 IO_L16N_T2_15 (io), K22 IO_L22N_T3_15 (io), L15 IO_L13N_T2_MRCC_15 (io), L16 IO_L15P_T2_DQS_15 (io), L18 IO_L18P_T2_15 (io), L19 IO_L18N_T2_15 (io), L20 IO_L24P_T3_RS1_15 (io), L21 IO_L24N_T3_RS0_15 (io), L22 IO_L22P_T3_15 (io), M15 IO_L13P_T2_MRCC_15 (io), M16 IO_25_15 (io), M17 IO_L14P_T2_SRCC_15 (io), M18 IO_L14N_T2_SRCC_15 (io)
part F pins: A11 IO_L8P_T1_16 (io), A12 IO_L8N_T1_16 (io), A13 IO_L9N_T1_DQS_16 (io), A14 IO_L17N_T2_16 (io), A16 IO_L18P_T2_16 (io), A17 IO_L18N_T2_16 (io), A18 IO_L21P_T3_DQS_16 (io), A19 IO_L21N_T3_DQS_16 (io), A20 IO_L23N_T3_16 (io), B13 IO_L9P_T1_DQS_16 (io), B14 IO_L17P_T2_16 (io), B15 IO_L14P_T2_SRCC_16 (io), B16 IO_L14N_T2_SRCC_16 (io), B19 IO_L20N_T3_16 (io), B20 IO_L23P_T3_16 (io), C10 IO_L10P_T1_16 (io), C11 IO_L10N_T1_16 (io), C12 IO_L12N_T1_MRCC_16 (io), C13 IO_L7N_T1_16 (io), C15 IO_L13P_T2_MRCC_16 (io), C16 IO_L13N_T2_MRCC_16 (io), C17 IO_L15N_T2_DQS_16 (io), C18 IO_L19N_T3_VREF_16 (io), C19 IO_L20P_T3_16 (io), D11 IO_L3N_T0_DQS_16 (io), D12 IO_L12P_T1_MRCC_16 (io), D13 IO_L7P_T1_16 (io), D14 IO_L11P_T1_SRCC_16 (io), D15 IO_L11N_T1_SRCC_16 (io), D16 IO_L15P_T2_DQS_16 (io), D18 IO_L19P_T3_16 (io), D19 IO_L24N_T3_16 (io), E11 IO_L3P_T0_DQS_16 (io), E12 IO_L5N_T0_16 (io), E15 IO_L16P_T2_16 (io), E16 IO_L16N_T2_16 (io), E17 IO_L22P_T3_16 (io), E18 IO_L22N_T3_16 (io), E19 IO_L24P_T3_16 (io), F10 IO_L2N_T0_16 (io), F11 IO_L1N_T0_16 (io), F12 IO_L5P_T0_16 (io), F13 IO_L4P_T0_16 (io), F14 IO_L4N_T0_16 (io), F15 IO_L6N_T0_VREF_16 (io), G10 IO_L2P_T0_16 (io), G11 IO_L1P_T0_16 (io), G13 IO_0_16 (io), G14 IO_L6P_T0_16 (io), G15 IO_25_16 (io)
part G pins: AA1 IO_L17N_T2_34 (io), AA2 IO_L17P_T2_34 (io), AA3 IO_L15N_T2_DQS_34 (io), AA6 IO_L13P_T2_MRCC_34 (io), AA7 IO_L23P_T3_34 (io), AA8 IO_L20N_T3_34 (io), AA9 IO_L24P_T3_34 (io), AA10 IO_L22P_T3_34 (io), AB2 IO_L16N_T2_34 (io), AB3 IO_L16P_T2_34 (io), AB4 IO_L18N_T2_34 (io), AB5 IO_L18P_T2_34 (io), AB6 IO_L13N_T2_MRCC_34 (io), AB7 IO_L23N_T3_34 (io), AB9 IO_L24N_T3_34 (io), AB10 IO_L22N_T3_34 (io), R2 IO_0_34 (io), T1 IO_25_34 (io), T2 IO_L12N_T1_MRCC_34 (io), T3 IO_L12P_T1_MRCC_34 (io), T5 IO_L4P_T0_34 (io), T6 IO_L2N_T0_34 (io), T7 IO_L2P_T0_34 (io), T8 IO_L6P_T0_34 (io), U1 IO_L9N_T1_DQS_34 (io), U2 IO_L9P_T1_DQS_34 (io), U3 IO_L11N_T1_SRCC_34 (io), U4 IO_L11P_T1_SRCC_34 (io), U5 IO_L4N_T0_34 (io), U8 IO_L6N_T0_VREF_34 (io), V1 IO_L7P_T1_34 (io), V4 IO_L3N_T0_DQS_34 (io), V5 IO_L3P_T0_DQS_34 (io), V6 IO_L5N_T0_34 (io), V7 IO_L5P_T0_34 (io), V8 IO_L19P_T3_34 (io), W1 IO_L7N_T1_34 (io), W2 IO_L8P_T1_34 (io), W3 IO_L10P_T1_34 (io), W4 IO_L1N_T0_34 (io), W5 IO_L1P_T0_34 (io), W7 IO_L21P_T3_DQS_34 (io), W8 IO_L19N_T3_VREF_34 (io), Y1 IO_L8N_T1_34 (io), Y3 IO_L10N_T1_34 (io), Y4 IO_L15P_T2_DQS_34 (io), Y5 IO_L14N_T2_SRCC_34 (io), Y6 IO_L14P_T2_SRCC_34 (io), Y7 IO_L21N_T3_DQS_34 (io), Y8 IO_L20P_T3_34 (io)
part H pins: H2 IO_L1N_T0_AD4N_35 (io), H3 IO_L2N_T0_AD12N_35 (io), H4 IO_L2P_T0_AD12P_35 (io), H5 IO_L5N_T0_AD13N_35 (io), H6 IO_L5P_T0_AD13P_35 (io), H7 IO_0_35 (io), J1 IO_L3N_T0_DQS_AD5N_35 (io), J2 IO_L3P_T0_DQS_AD5P_35 (io), J3 IO_L1P_T0_AD4P_35 (io), J6 IO_L6N_T0_VREF_35 (io), J7 IO_L7N_T1_AD6N_35 (io), J8 IO_L7P_T1_AD6P_35 (io), K1 IO_L14N_T2_SRCC_35 (io), K2 IO_L4N_T0_35 (io), K3 IO_L4P_T0_35 (io), K4 IO_L10N_T1_AD15N_35 (io), K5 IO_L9N_T1_DQS_AD7N_35 (io), K6 IO_L6P_T0_35 (io), K8 IO_L11N_T1_SRCC_35 (io), L1 IO_L14P_T2_SRCC_35 (io), L4 IO_L10P_T1_AD15P_35 (io), L5 IO_L9P_T1_DQS_AD7P_35 (io), L6 IO_L8N_T1_AD14N_35 (io), L7 IO_L8P_T1_AD14P_35 (io), L8 IO_L11P_T1_SRCC_35 (io), M1 IO_L15N_T2_DQS_35 (io), M2 IO_L15P_T2_DQS_35 (io), M3 IO_L13N_T2_MRCC_35 (io), M4 IO_L13P_T2_MRCC_35 (io), M5 IO_L20N_T3_35 (io), M7 IO_L12N_T1_MRCC_35 (io), M8 IO_L12P_T1_MRCC_35 (io), N1 IO_L17N_T2_35 (io), N3 IO_L16N_T2_35 (io), N4 IO_L16P_T2_35 (io), N5 IO_L20P_T3_35 (io), N6 IO_L21N_T3_DQS_35 (io), N7 IO_L22N_T3_35 (io), N8 IO_L19N_T3_VREF_35 (io), P1 IO_L17P_T2_35 (io), P2 IO_L18N_T2_35 (io), P3 IO_L18P_T2_35 (io), P6 IO_L21P_T3_DQS_35 (io), P7 IO_L22P_T3_35 (io), P8 IO_L19P_T3_35 (io), R3 IO_25_35 (io), R4 IO_L24N_T3_35 (io), R5 IO_L24P_T3_35 (io), R6 IO_L23N_T3_35 (io), R7 IO_L23P_T3_35 (io)
part I pins: A2 IO_L15N_T2_DQS_36 (io), A3 IO_L14N_T2_SRCC_36 (io), A4 IO_L14P_T2_SRCC_36 (io), A5 IO_L13N_T2_MRCC_36 (io), A6 IO_L4N_T0_36 (io), A7 IO_L4P_T0_36 (io), A9 IO_L1N_T0_36 (io), A10 IO_L2N_T0_36 (io), B1 IO_L17N_T2_36 (io), B2 IO_L17P_T2_36 (io), B3 IO_L15P_T2_DQS_36 (io), B6 IO_L13P_T2_MRCC_36 (io), B7 IO_L5N_T0_36 (io), B8 IO_L5P_T0_36 (io), B9 IO_L1P_T0_36 (io), B10 IO_L2P_T0_36 (io), C1 IO_L18N_T2_36 (io), C2 IO_L18P_T2_36 (io), C3 IO_L16N_T2_36 (io), C4 IO_L16P_T2_36 (io), C5 IO_L7N_T1_36 (io), C6 IO_L7P_T1_36 (io), C8 IO_L3N_T0_DQS_36 (io), C9 IO_L3P_T0_DQS_36 (io), D1 IO_L24N_T3_36 (io), D2 IO_L23N_T3_36 (io), D4 IO_L20N_T3_36 (io), D5 IO_L8N_T1_36 (io), D6 IO_L8P_T1_36 (io), D7 IO_L6N_T0_VREF_36 (io), D8 IO_L6P_T0_36 (io), E1 IO_L21N_T3_DQS_36 (io), E2 IO_L24P_T3_36 (io), E3 IO_L23P_T3_36 (io), E4 IO_L20P_T3_36 (io), E5 IO_L10N_T1_36 (io), E8 IO_0_36 (io), F1 IO_L21P_T3_DQS_36 (io), F4 IO_25_36 (io), F5 IO_L10P_T1_36 (io), F6 IO_L12N_T1_MRCC_36 (io), F7 IO_L12P_T1_MRCC_36 (io), F8 IO_L9N_T1_DQS_36 (io), G1 IO_L22N_T3_36 (io), G2 IO_L22P_T3_36 (io), G3 IO_L19N_T3_VREF_36 (io), G4 IO_L19P_T3_36 (io), G6 IO_L11N_T1_SRCC_36 (io), G7 IO_L11P_T1_SRCC_36 (io), G8 IO_L9P_T1_DQS_36 (io)

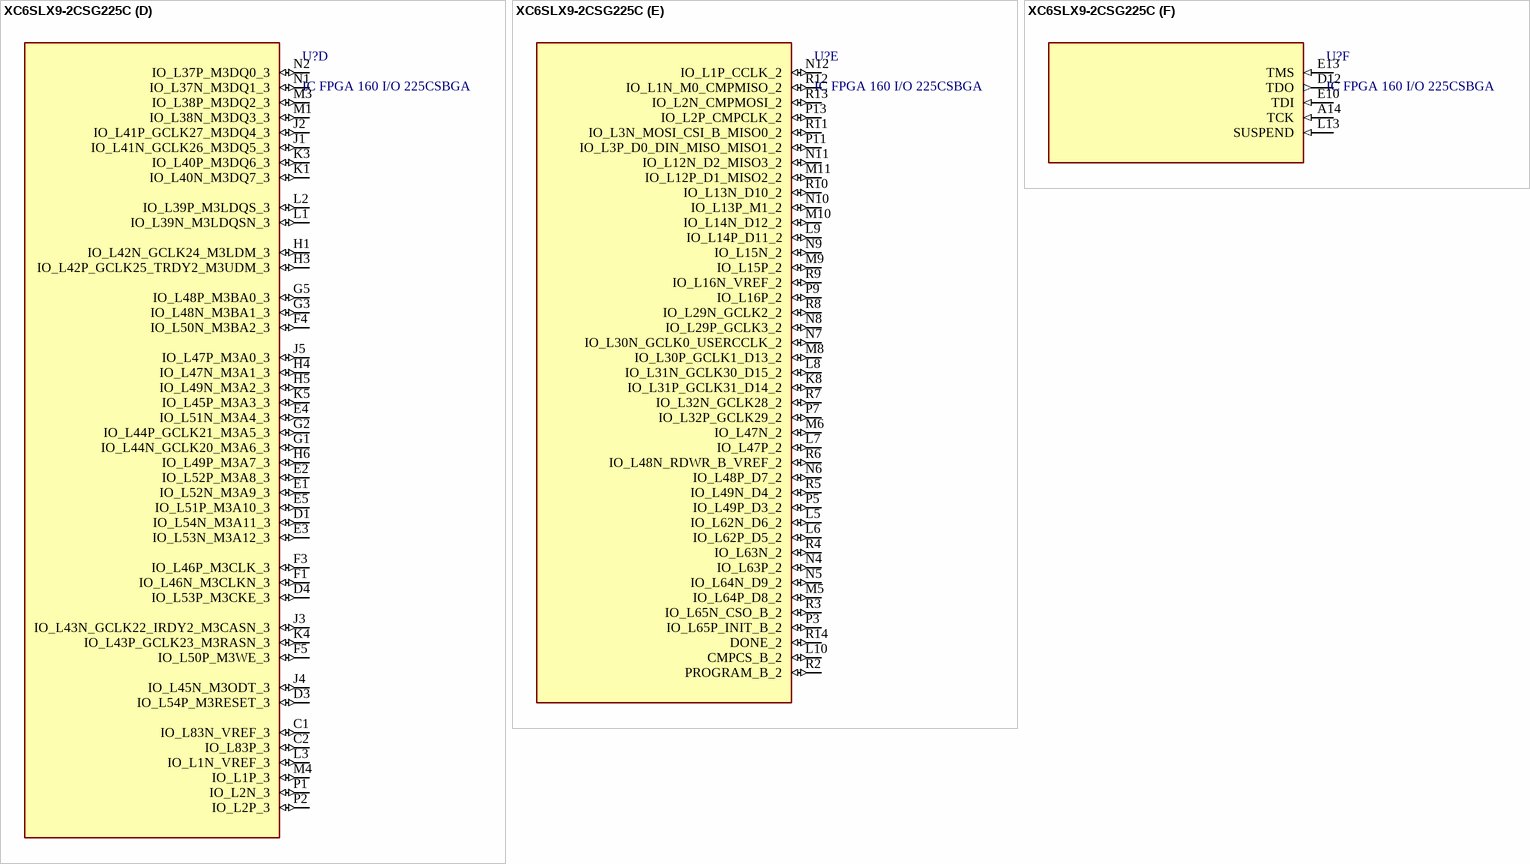
[diagram p17: symbol XC6SLX9-2CSG225C]

## XC6SLX9-2CSG225C
designator U?, comment IC FPGA 160 I/O 225CSBGA
FPGA Spartan-6 LX Family 9152 Cells 45nm (CMOS) Technology 1.2V 225-Pin CSBGA; Manufacturer: Xilinx; Manufacturer Part Number: XC6SLX9-2CSG225C; Speed Grade: 2; Number of Logic Blocks (LABs): 715; Number of Logic Elements/Cells: 9152; RAM Size: 589824b; Number of I/Os: 160; Number of Registers: 11440; Supplier 1: Digi-Key; RoHS: Yes; Category: FPGAs - Field Programmable Gate Arrays; Pricing 1: 1=29/47000 (USD); Mount: Surface Mount; Case/Package: BGA; Number of Pins: 225; Min Operating Temperature: 0°C; Max Operating Temperature: 85°C; Operating Supply Voltage: 1.2V; Package Quantity: 1; Series: Spartan® 6 LX; RoHS Compliant: Yes; ComponentLink1URL: https://datasheet.ciiva.com/1442/ds160-1442501.pdf?src-supplier=Digi-Key; ComponentLink1Description: https://datasheet.ciiva.com/1442/ds160-1442501.pdf?src-supplier=Digi-Key; ComponentLink2URL: https://datasheet.ciiva.com/3253/ds160-3253001.pdf?src-supplier=Avnet; ComponentLink2Description: https://datasheet.ciiva.com/3253/ds160-3253001.pdf?src-supplier=Avnet; Supplier Part Number 1: 122-1744-ND
footprint BGA225C80P15X15_1300X1300X140 (BGA, 225-Leads, Body 13/00x13/00mmx1/40mm, Pitch 0/80mm)
part A pins: A1 GND_1, A15 GND_2, B1 VCCAUX_1, B4 VCCO_0_1, B6 GND_3, B8 VCCO_0_2, B10 GND_4, B12 VCCO_0_3, C3 GND_5, C13 GND_6, D2 VCCO_3_1, D9 VCCO_0_4, D14 VCCO_1_1, E11 GND_7, E12 VCCAUX_2, F2 GND_8, F6 GND_9, F7 VCCAUX_3, F9 VCCINT_1, F14 GND_10, G4 VCCO_3_2, G6 VCCINT_2, G7 GND_11, G8 VCCINT_3, G9 GND_12, G10 VCCAUX_4, H2 VCCO_3_3, H7 VCCINT_4, H8 GND_13, H9 VCCINT_5, H14 VCCO_1_2, J6 VCCAUX_5, J7 GND_14, J8 VCCINT_6, J9 GND_15, J10 VCCINT_7, J12 VCCO_1_3, K2 GND_16, K6 GND_17, K7 VCCINT_8, K9 VCCAUX_6, K14 GND_18, L4 VCCAUX_7, L11 GND_19, M2 VCCO_3_4, M7 VCCO_2_1, M12 VCCAUX_8, M14 VCCO_1_4, N3 GND_20, N13 GND_21, P4 VCCO_2_2, P6 GND_22, P8 VCCO_2_3, P10 GND_23, P12 VCCO_2_4, R1 GND_24, R15 GND_25
part B pins: A2 IO_L1N_VREF_0 (io), A3 IO_L2N_0 (io), A4 IO_L4N_0 (io), A5 IO_L6N_0 (io), A6 IO_L33N_0 (io), A7 IO_L35N_GCLK16_0 (io), A8 IO_L36N_GCLK14_0 (io), A9 IO_L37N_GCLK12_0 (io), A10 IO_L62N_VREF_0 (io), A11 IO_L63N_SCP6_0 (io), A12 IO_L66N_SCP0_0 (io), A13 IO_L65N_SCP2_0 (io), B2 IO_L1P_HSWAPEN_0 (io), B3 IO_L2P_0 (io), B5 IO_L6P_0 (io), B7 IO_L35P_GCLK17_0 (io), B9 IO_L37P_GCLK13_0 (io), B11 IO_L63P_SCP7_0 (io), B13 IO_L65P_SCP3_0 (io), C4 IO_L4P_0 (io), C5 IO_L3N_0 (io), C6 IO_L33P_0 (io), C7 IO_L7N_0 (io), C8 IO_L36P_GCLK15_0 (io), C9 IO_L39N_0 (io), C10 IO_L62P_0 (io), C11 IO_L64N_SCP4_0 (io), C12 IO_L66P_SCP1_0 (io), D5 IO_L3P_0 (io), D6 IO_L5N_0 (io), D7 IO_L7P_0 (io), D8 IO_L34N_GCLK18_0 (io), D10 IO_L39P_0 (io), D11 IO_L64P_SCP5_0 (io), E6 IO_L5P_0 (io), E7 IO_L34P_GCLK19_0 (io), E8 IO_L38N_VREF_0 (io), E9 IO_L40N_0 (io), F8 IO_L38P_0 (io), F10 IO_L40P_0 (io)
part C pins: B14 IO_L1P_A25_1 (io), B15 IO_L1N_A24_VREF_1 (io), C14 IO_L33P_A15_M1A10_1 (io), C15 IO_L33N_A14_M1A4_1 (io), D13 IO_L35P_A11_M1A7_1 (io), D15 IO_L35N_A10_M1A2_1 (io), E14 IO_L37P_A7_M1A0_1 (io), E15 IO_L37N_A6_M1A1_1 (io), F11 IO_L31P_A19_M1CKE_1 (io), F12 IO_L31N_A18_M1A12_1 (io), F13 IO_L39P_M1A3_1 (io), F15 IO_L39N_M1ODT_1 (io), G11 IO_L30P_A21_M1RESET_1 (io), G12 IO_L30N_A20_M1A11_1 (io), G13 IO_L34N_A12_M1BA2_1 (io), G14 IO_L41P_GCLK9_IRDY1_M1RASN_1 (io), G15 IO_L41N_GCLK8_M1CASN_1 (io), H10 IO_L32P_A17_M1A8_1 (io), H11 IO_L32N_A16_M1A9_1 (io), H12 IO_L34P_A13_M1WE_1 (io), H13 IO_L42P_GCLK7_M1UDM_1 (io), H15 IO_L42N_GCLK6_TRDY1_M1LDM_1 (io), J11 IO_L36P_A9_M1BA0_1 (io), J13 IO_L36N_A8_M1BA1_1 (io), J14 IO_L43P_GCLK5_M1DQ4_1 (io), J15 IO_L43N_GCLK4_M1DQ5_1 (io), K10 IO_L38P_A5_M1CLK_1 (io), K11 IO_L38N_A4_M1CLKN_1 (io), K12 IO_L40P_GCLK11_M1A5_1 (io), K13 IO_L44P_A3_M1DQ6_1 (io), K15 IO_L44N_A2_M1DQ7_1 (io), L12 IO_L40N_GCLK10_M1A6_1 (io), L14 IO_L45P_A1_M1LDQS_1 (io), L15 IO_L45N_A0_M1LDQSN_1 (io), M13 IO_L46P_FCS_B_M1DQ2_1 (io), M15 IO_L46N_FOE_B_M1DQ3_1 (io), N14 IO_L47P_FWE_B_M1DQ0_1 (io), N15 IO_L47N_LDC_M1DQ1_1 (io), P14 IO_L74P_AWAKE_1 (io), P15 IO_L74N_DOUT_BUSY_1 (io)
part D pins: C1 IO_L83N_VREF_3 (io), C2 IO_L83P_3 (io), D1 IO_L54N_M3A11_3 (io), D3 IO_L54P_M3RESET_3 (io), D4 IO_L53P_M3CKE_3 (io), E1 IO_L52N_M3A9_3 (io), E2 IO_L52P_M3A8_3 (io), E3 IO_L53N_M3A12_3 (io), E4 IO_L51N_M3A4_3 (io), E5 IO_L51P_M3A10_3 (io), F1 IO_L46N_M3CLKN_3 (io), F3 IO_L46P_M3CLK_3 (io), F4 IO_L50N_M3BA2_3 (io), F5 IO_L50P_M3WE_3 (io), G1 IO_L44N_GCLK20_M3A6_3 (io), G2 IO_L44P_GCLK21_M3A5_3 (io), G3 IO_L48N_M3BA1_3 (io), G5 IO_L48P_M3BA0_3 (io), H1 IO_L42N_GCLK24_M3LDM_3 (io), H3 IO_L42P_GCLK25_TRDY2_M3UDM_3 (io), H4 IO_L47N_M3A1_3 (io), H5 IO_L49N_M3A2_3 (io), H6 IO_L49P_M3A7_3 (io), J1 IO_L41N_GCLK26_M3DQ5_3 (io), J2 IO_L41P_GCLK27_M3DQ4_3 (io), J3 IO_L43N_GCLK22_IRDY2_M3CASN_3 (io), J4 IO_L45N_M3ODT_3 (io), J5 IO_L47P_M3A0_3 (io), K1 IO_L40N_M3DQ7_3 (io), K3 IO_L40P_M3DQ6_3 (io), K4 IO_L43P_GCLK23_M3RASN_3 (io), K5 IO_L45P_M3A3_3 (io), L1 IO_L39N_M3LDQSN_3 (io), L2 IO_L39P_M3LDQS_3 (io), L3 IO_L1N_VREF_3 (io), M1 IO_L38N_M3DQ3_3 (io), M3 IO_L38P_M3DQ2_3 (io), M4 IO_L1P_3 (io), N1 IO_L37N_M3DQ1_3 (io), N2 IO_L37P_M3DQ0_3 (io), P1 IO_L2N_3 (io), P2 IO_L2P_3 (io)
part E pins: K8 IO_L31P_GCLK31_D14_2 (io), L5 IO_L62N_D6_2 (io), L6 IO_L62P_D5_2 (io), L7 IO_L47P_2 (io), L8 IO_L31N_GCLK30_D15_2 (io), L9 IO_L14P_D11_2 (io), L10 CMPCS_B_2 (io), M5 IO_L64P_D8_2 (io), M6 IO_L47N_2 (io), M8 IO_L30P_GCLK1_D13_2 (io), M9 IO_L15P_2 (io), M10 IO_L14N_D12_2 (io), M11 IO_L12P_D1_MISO2_2 (io), N4 IO_L63P_2 (io), N5 IO_L64N_D9_2 (io), N6 IO_L48P_D7_2 (io), N7 IO_L30N_GCLK0_USERCCLK_2 (io), N8 IO_L29P_GCLK3_2 (io), N9 IO_L15N_2 (io), N10 IO_L13P_M1_2 (io), N11 IO_L12N_D2_MISO3_2 (io), N12 IO_L1P_CCLK_2 (io), P3 IO_L65P_INIT_B_2 (io), P5 IO_L49P_D3_2 (io), P7 IO_L32P_GCLK29_2 (io), P9 IO_L16P_2 (io), P11 IO_L3P_D0_DIN_MISO_MISO1_2 (io), P13 IO_L2P_CMPCLK_2 (io), R2 PROGRAM_B_2 (io), R3 IO_L65N_CSO_B_2 (io), R4 IO_L63N_2 (io), R5 IO_L49N_D4_2 (io), R6 IO_L48N_RDWR_B_VREF_2 (io), R7 IO_L32N_GCLK28_2 (io), R8 IO_L29N_GCLK2_2 (io), R9 IO_L16N_VREF_2 (io), R10 IO_L13N_D10_2 (io), R11 IO_L3N_MOSI_CSI_B_MISO0_2 (io), R12 IO_L1N_M0_CMPMISO_2 (io), R13 IO_L2N_CMPMOSI_2 (io), R14 DONE_2 (io)
part F pins: A14 TCK (in), D12 TDO (out), E10 TDI (in), E13 TMS (in), L13 SUSPEND (in)